# Altium schematic symbol library IN-5200_MAIN_Library.SchLib: 63 symbols
Pins are listed as number, name and electrical type; pins without a type are passive.

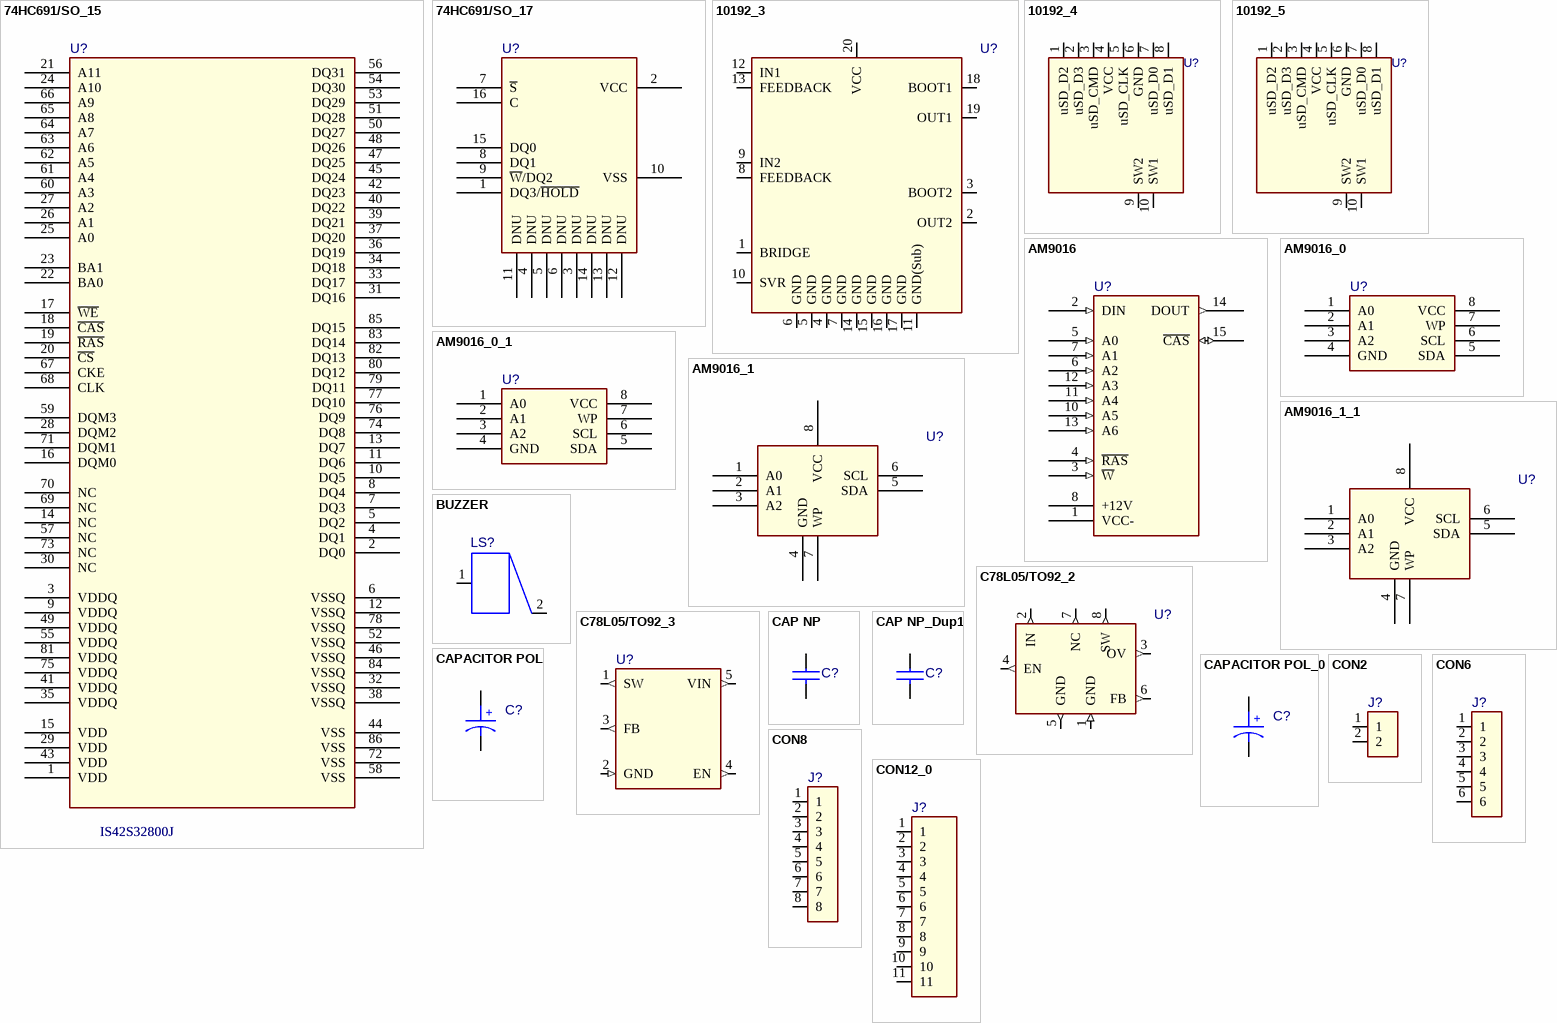
[diagram p0: symbols 74HC691/SO_15 to CON12_0]

## 74HC691/SO_15
designator U?, comment IS42S32800J
Value: IS42S32800J
pins: 1 VDD, 2 DQ0, 3 VDDQ, 4 DQ1, 5 DQ2, 6 VSSQ, 7 DQ3, 8 DQ4, 9 VDDQ, 10 DQ5, 11 DQ6, 12 VSSQ, 13 DQ7, 14 NC, 15 VDD, 16 DQM0, 17 ~{WE}, 18 ~{CAS}, 19 ~{RAS}, 20 ~{CS}, 21 A11, 22 BA0, 23 BA1, 24 A10, 25 A0, 26 A1, 27 A2, 28 DQM2, 29 VDD, 30 NC, 31 DQ16, 32 VSSQ, 33 DQ17, 34 DQ18, 35 VDDQ, 36 DQ19, 37 DQ20, 38 VSSQ, 39 DQ21, 40 DQ22, 41 VDDQ, 42 DQ23, 43 VDD, 44 VSS, 45 DQ24, 46 VSSQ, 47 DQ25, 48 DQ26, 49 VDDQ, 50 DQ27, 51 DQ28, 52 VSSQ, 53 DQ29, 54 DQ30, 55 VDDQ, 56 DQ31, 57 NC, 58 VSS, 59 DQM3, 60 A3, 61 A4, 62 A5, 63 A6, 64 A7, 65 A8, 66 A9, 67 CKE, 68 CLK, 69 NC, 70 NC, 71 DQM1, 72 VSS, 73 NC, 74 DQ8, 75 VDDQ, 76 DQ9, 77 DQ10, 78 VSSQ, 79 DQ11, 80 DQ12, 81 VDDQ, 82 DQ13, 83 DQ14, 84 VSSQ, 85 DQ15, 86 VSS

## 74HC691/SO_17
designator U?
pins: 1 DQ3/~{HOLD}, 2 VCC, 3 DNU, 4 DNU, 5 DNU, 6 DNU, 7 ~{S}, 8 DQ1, 9 ~{W}/DQ2, 10 VSS, 11 DNU, 12 DNU, 13 DNU, 14 DNU, 15 DQ0, 16 C

## 10192_3
designator U?
pins: 1 BRIDGE, 2 OUT2, 3 BOOT2, 4 GND, 5 GND, 6 GND, 7 GND, 8 FEEDBACK, 9 IN2, 10 SVR, 11 GND(Sub), 12 IN1, 13 FEEDBACK, 14 GND, 15 GND, 16 GND, 17 GND, 18 BOOT1, 19 OUT1, 20 VCC

## 10192_4
designator U?
pins: 1 uSD_D2, 2 uSD_D3, 3 uSD_CMD, 4 VCC, 5 uSD_CLK, 6 GND, 7 uSD_D0, 8 uSD_D1, 9 SW2, 10 SW1

## 10192_5
designator U?
pins: 1 uSD_D2, 2 uSD_D3, 3 uSD_CMD, 4 VCC, 5 uSD_CLK, 6 GND, 7 uSD_D0, 8 uSD_D1, 9 SW2, 10 SW1

## AM9016
designator U?
pins: 1 VCC- (power), 2 DIN (in), 3 ~{W} (in), 4 ~{RAS} (in), 5 A0 (in), 6 A2 (in), 7 A1 (in), 8 +12V (power), 9 VCC (power) hidden to VCC, 10 A5 (in), 11 A4 (in), 12 A3 (in), 13 A6 (in), 14 DOUT (out), 15 ~{CAS} (io), 16 GND (power) hidden to GND

## AM9016_0
designator U?
pins: 1 A0, 2 A1, 3 A2, 4 GND, 5 SDA, 6 SCL, 7 WP, 8 VCC

## AM9016_0_1
designator U?
pins: 1 A0, 2 A1, 3 A2, 4 GND, 5 SDA, 6 SCL, 7 WP, 8 VCC

## AM9016_1
designator U?
pins: 1 A0, 2 A1, 3 A2, 4 GND, 5 SDA, 6 SCL, 7 WP, 8 VCC

## AM9016_1_1
designator U?
pins: 1 A0, 2 A1, 3 A2, 4 GND, 5 SDA, 6 SCL, 7 WP, 8 VCC

## BUZZER
designator LS?
pins: 1 A, 2 B

## C78L05/TO92_2
designator U?
pins: 1 GND (in), 2 IN (out), 3 OV (out), 4 EN (out), 5 GND (out), 6 FB (out), 7 NC (out), 8 SW (out)

## C78L05/TO92_3
designator U?
pins: 1 SW (out), 2 GND (in), 3 FB (out), 4 EN (out), 5 VIN (out)

## CAP NP
designator C?
pins: 1, 2

## CAP NP_Dup1
designator C?
pins: 1, 2

## CAPACITOR POL
designator C?
pins: 1, 2
text: +

## CAPACITOR POL_0
designator C?
pins: 1, 2
text: +

## CON2
designator J?
pins: 1, 2

## CON6
designator J?
pins: 1, 2, 3, 4, 5, 6

## CON8
designator J?
pins: 1, 2, 3, 4, 5, 6, 7, 8

## CON12_0
designator J?
pins: 1, 2, 3, 4, 5, 6, 7, 8, 9, 10, 11

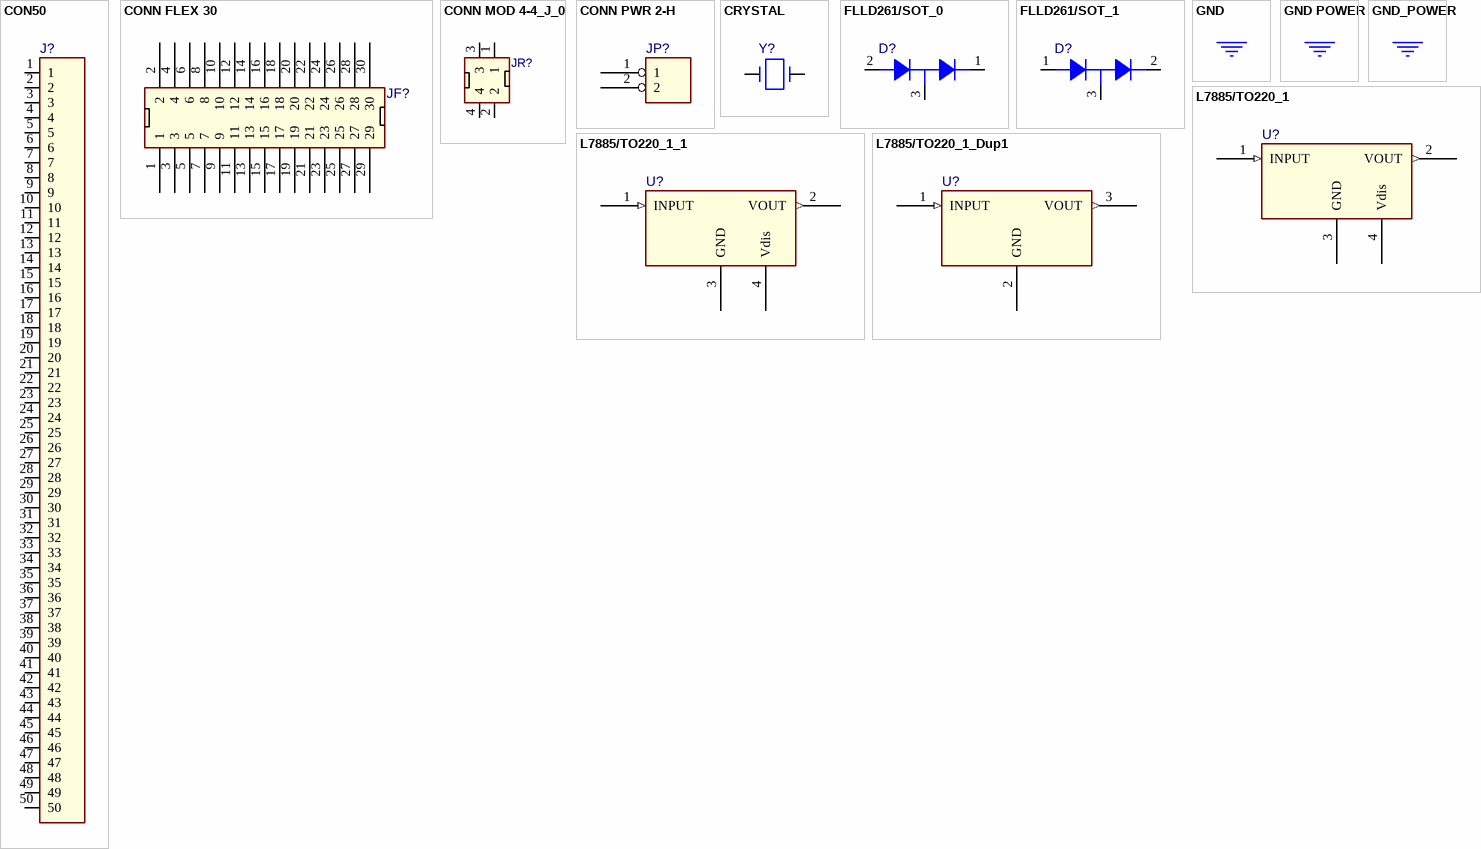
[diagram p1: symbols CON50 to L7885/TO220_1_Dup1]

## CON50
designator J?
pins: 1, 2, 3, 4, 5, 6, 7, 8, 9, 10, 11, 12, 13, 14, 15, 16, 17, 18, 19, 20, 21, 22, 23, 24, 25, 26, 27, 28, 29, 30, 31, 32, 33, 34, 35, 36, 37, 38, 39, 40, 41, 42, 43, 44, 45, 46, 47, 48, 49, 50

## CONN FLEX 30
designator JF?
pins: 1, 2, 3, 4, 5, 6, 7, 8, 9, 10, 11, 12, 13, 14, 15, 16, 17, 18, 19, 20, 21, 22, 23, 24, 25, 26, 27, 28, 29, 30

## CONN MOD 4-4_J_0
designator JR?
pins: 1, 2, 3, 4

## CONN PWR 2-H
designator JP?
pins: 1, 2

## CRYSTAL
designator Y?
pins: 1, 2

## FLLD261/SOT_0
designator D?
pins: 1 CATHODE, 2 ANODE, 3 COM

## FLLD261/SOT_1
designator D?
pins: 1 CATHODE, 2 ANODE, 3 COM

## GND
designator *  (value not drawn)  (graphical)
SDTSourceLibName: C:\rd\ui\DEVICE.LIB
pins: $PIN0 (power) hidden to $PIN0

## GND POWER
designator *  (value not drawn)  (graphical)
SDTSourceLibName: C:\rd\ui\DEVICE.LIB
pins: GND (power) hidden to GND

## GND_POWER
designator *  (value not drawn)  (graphical)
SDTSourceLibName: C:\rd\ui\DEVICE.LIB
pins: GND (power) hidden to GND

## L7885/TO220_1
designator U?
pins: 1 INPUT (in), 2 VOUT (out), 3 GND, 4 Vdis

## L7885/TO220_1_1
designator U?
pins: 1 INPUT (in), 2 VOUT (out), 3 GND, 4 Vdis

## L7885/TO220_1_Dup1
designator U?
pins: 1 INPUT (in), 2 GND, 3 VOUT (out)

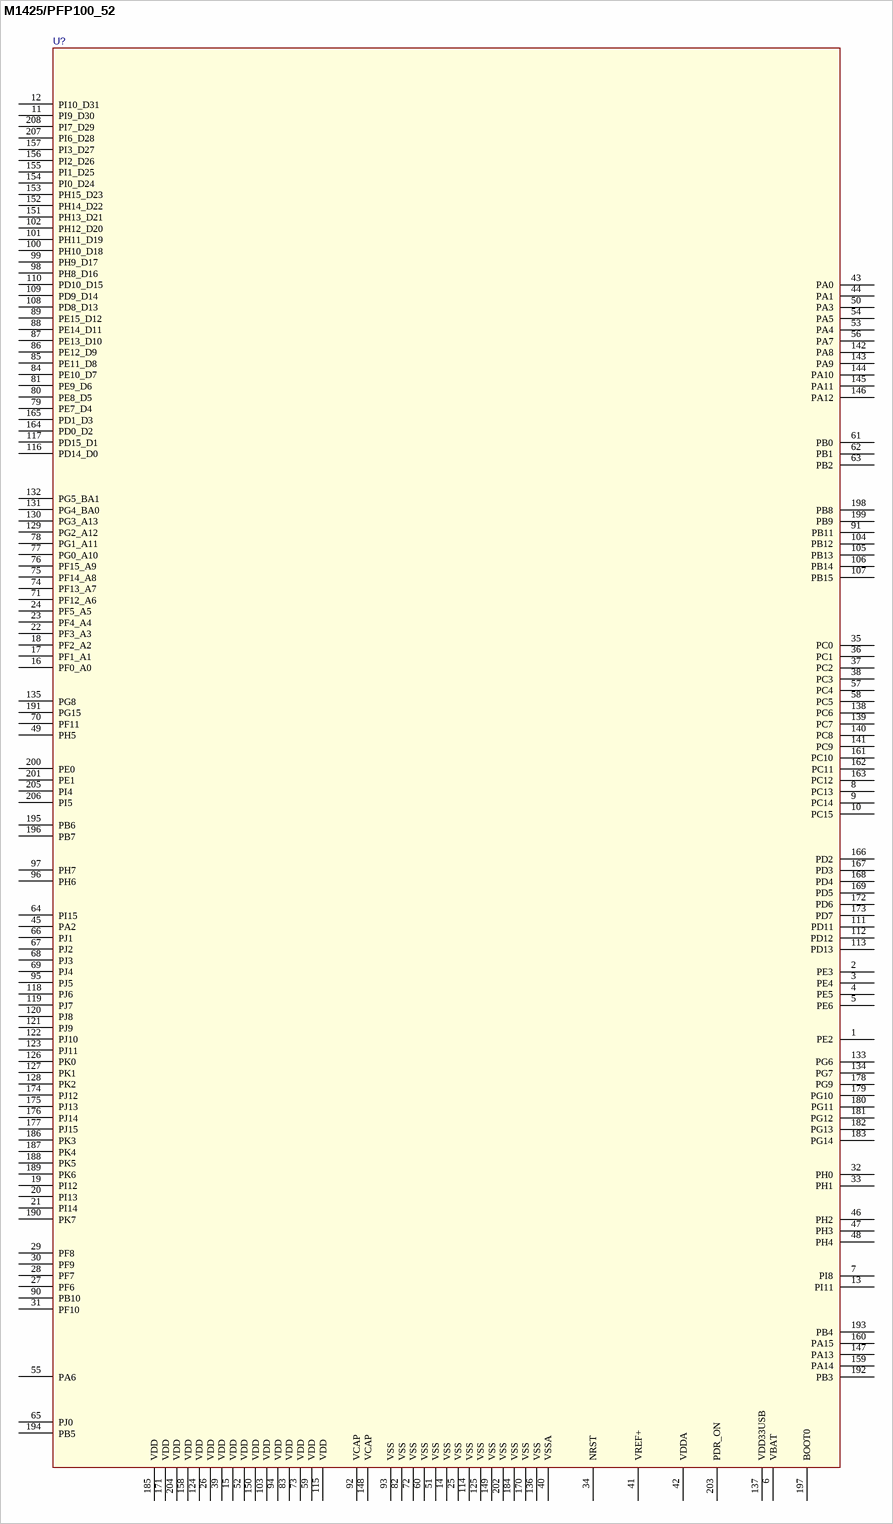
[diagram p2: symbol M1425/PFP100_52]

## M1425/PFP100_52
designator U?
pins: 1 PE2, 2 PE3, 3 PE4, 4 PE5, 5 PE6, 6 VBAT, 7 PI8, 8 PC13, 9 PC14, 10 PC15, 11 PI9_D30, 12 PI10_D31, 13 PI11, 14 VSS, 15 VDD, 16 PF0_A0, 17 PF1_A1, 18 PF2_A2, 19 PI12, 20 PI13, 21 PI14, 22 PF3_A3, 23 PF4_A4, 24 PF5_A5, 25 VSS, 26 VDD, 27 PF6, 28 PF7, 29 PF8, 30 PF9, 31 PF10, 32 PH0, 33 PH1, 34 NRST, 35 PC0, 36 PC1, 37 PC2, 38 PC3, 39 VDD, 40 VSSA, 41 VREF+, 42 VDDA, 43 PA0, 44 PA1, 45 PA2, 46 PH2, 47 PH3, 48 PH4, 49 PH5, 50 PA3, 51 VSS, 52 VDD, 53 PA4, 54 PA5, 55 PA6, 56 PA7, 57 PC4, 58 PC5, 59 VDD, 60 VSS, 61 PB0, 62 PB1, 63 PB2, 64 PI15, 65 PJ0, 66 PJ1, 67 PJ2, 68 PJ3, 69 PJ4, 70 PF11, 71 PF12_A6, 72 VSS, 73 VDD, 74 PF13_A7, 75 PF14_A8, 76 PF15_A9, 77 PG0_A10, 78 PG1_A11, 79 PE7_D4, 80 PE8_D5, 81 PE9_D6, 82 VSS, 83 VDD, 84 PE10_D7, 85 PE11_D8, 86 PE12_D9, 87 PE13_D10, 88 PE14_D11, 89 PE15_D12, 90 PB10, 91 PB11, 92 VCAP, 93 VSS, 94 VDD, 95 PJ5, 96 PH6, 97 PH7, 98 PH8_D16, 99 PH9_D17, 100 PH10_D18, 101 PH11_D19, 102 PH12_D20, 103 VDD, 104 PB12, 105 PB13, 106 PB14, 107 PB15, 108 PD8_D13, 109 PD9_D14, 110 PD10_D15, 111 PD11, 112 PD12, 113 PD13, 114 VSS, 115 VDD, 116 PD14_D0, 117 PD15_D1, 118 PJ6, 119 PJ7, 120 PJ8, 121 PJ9, 122 PJ10, 123 PJ11, 124 VDD, 125 VSS, 126 PK0, 127 PK1, 128 PK2, 129 PG2_A12, 130 PG3_A13, 131 PG4_BA0, 132 PG5_BA1, 133 PG6, 134 PG7, 135 PG8, 136 VSS, 137 VDD33USB, 138 PC6, 139 PC7, 140 PC8, 141 PC9, 142 PA8, 143 PA9, 144 PA10, 145 PA11, 146 PA12, 147 PA13, 148 VCAP, 149 VSS, 150 VDD, 151 PH13_D21, 152 PH14_D22, 153 PH15_D23, 154 PI0_D24, 155 PI1_D25, 156 PI2_D26, 157 PI3_D27, 158 VDD, 159 PA14, 160 PA15, 161 PC10, 162 PC11, 163 PC12, 164 PD0_D2, 165 PD1_D3, 166 PD2, 167 PD3, 168 PD4, 169 PD5, 170 VSS, 171 VDD, 172 PD6, 173 PD7, 174 PJ12, 175 PJ13, 176 PJ14, 177 PJ15, 178 PG9, 179 PG10, 180 PG11, 181 PG12, 182 PG13, 183 PG14, 184 VSS, 185 VDD, 186 PK3, 187 PK4, 188 PK5, 189 PK6, 190 PK7, 191 PG15, 192 PB3, 193 PB4, 194 PB5, 195 PB6, 196 PB7, 197 BOOT0, 198 PB8, 199 PB9, 200 PE0, 201 PE1, 202 VSS, 203 PDR_ON, 204 VDD, 205 PI4, 206 PI5, 207 PI6_D28, 208 PI7_D29

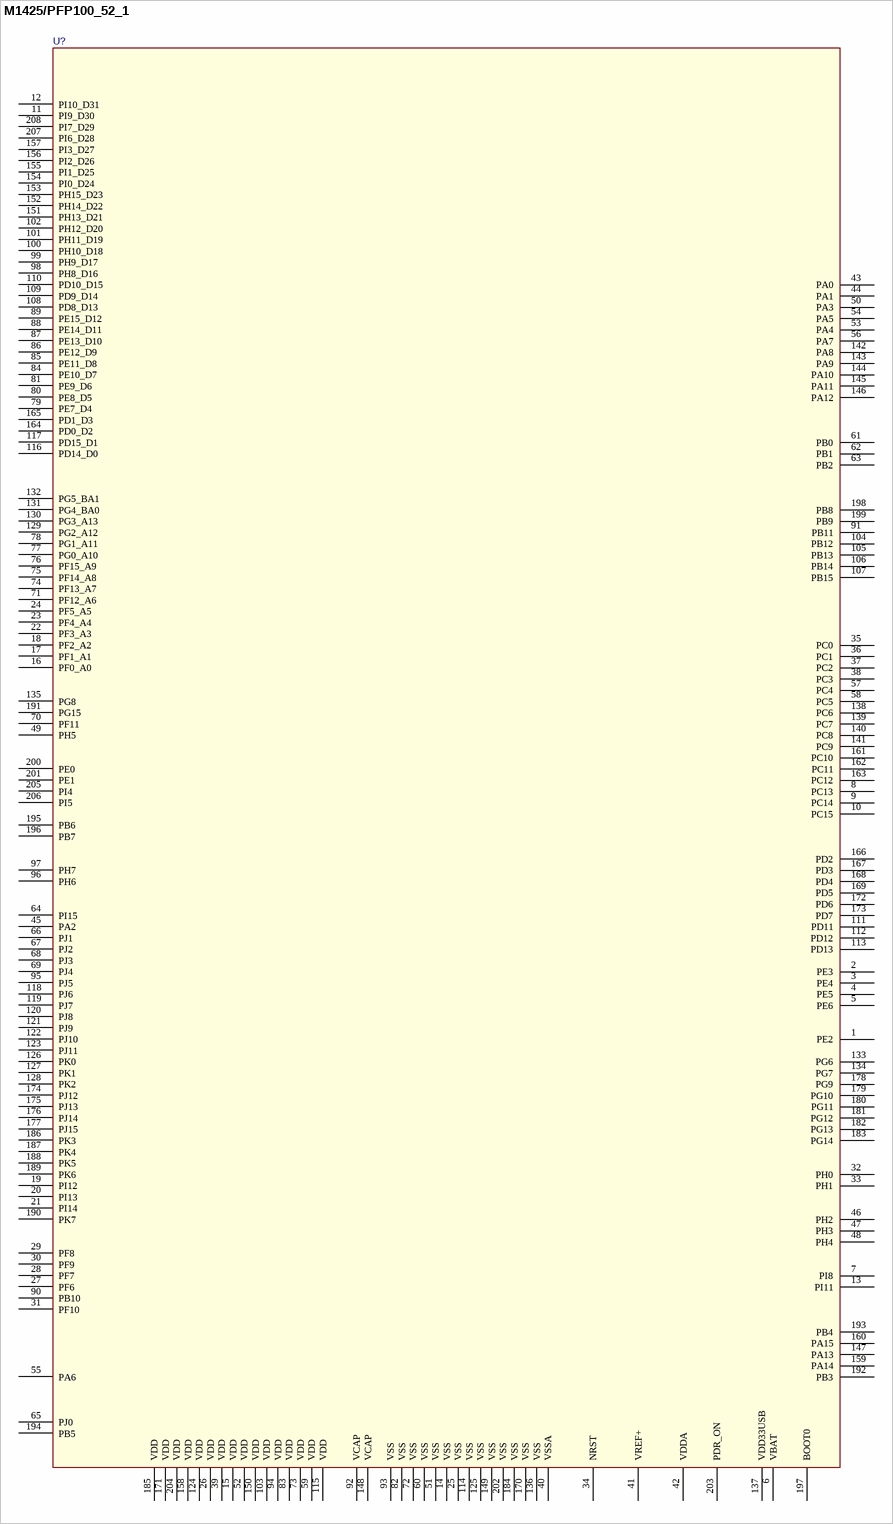
[diagram p3: symbol M1425/PFP100_52_1]

## M1425/PFP100_52_1
designator U?
pins: 1 PE2, 2 PE3, 3 PE4, 4 PE5, 5 PE6, 6 VBAT, 7 PI8, 8 PC13, 9 PC14, 10 PC15, 11 PI9_D30, 12 PI10_D31, 13 PI11, 14 VSS, 15 VDD, 16 PF0_A0, 17 PF1_A1, 18 PF2_A2, 19 PI12, 20 PI13, 21 PI14, 22 PF3_A3, 23 PF4_A4, 24 PF5_A5, 25 VSS, 26 VDD, 27 PF6, 28 PF7, 29 PF8, 30 PF9, 31 PF10, 32 PH0, 33 PH1, 34 NRST, 35 PC0, 36 PC1, 37 PC2, 38 PC3, 39 VDD, 40 VSSA, 41 VREF+, 42 VDDA, 43 PA0, 44 PA1, 45 PA2, 46 PH2, 47 PH3, 48 PH4, 49 PH5, 50 PA3, 51 VSS, 52 VDD, 53 PA4, 54 PA5, 55 PA6, 56 PA7, 57 PC4, 58 PC5, 59 VDD, 60 VSS, 61 PB0, 62 PB1, 63 PB2, 64 PI15, 65 PJ0, 66 PJ1, 67 PJ2, 68 PJ3, 69 PJ4, 70 PF11, 71 PF12_A6, 72 VSS, 73 VDD, 74 PF13_A7, 75 PF14_A8, 76 PF15_A9, 77 PG0_A10, 78 PG1_A11, 79 PE7_D4, 80 PE8_D5, 81 PE9_D6, 82 VSS, 83 VDD, 84 PE10_D7, 85 PE11_D8, 86 PE12_D9, 87 PE13_D10, 88 PE14_D11, 89 PE15_D12, 90 PB10, 91 PB11, 92 VCAP, 93 VSS, 94 VDD, 95 PJ5, 96 PH6, 97 PH7, 98 PH8_D16, 99 PH9_D17, 100 PH10_D18, 101 PH11_D19, 102 PH12_D20, 103 VDD, 104 PB12, 105 PB13, 106 PB14, 107 PB15, 108 PD8_D13, 109 PD9_D14, 110 PD10_D15, 111 PD11, 112 PD12, 113 PD13, 114 VSS, 115 VDD, 116 PD14_D0, 117 PD15_D1, 118 PJ6, 119 PJ7, 120 PJ8, 121 PJ9, 122 PJ10, 123 PJ11, 124 VDD, 125 VSS, 126 PK0, 127 PK1, 128 PK2, 129 PG2_A12, 130 PG3_A13, 131 PG4_BA0, 132 PG5_BA1, 133 PG6, 134 PG7, 135 PG8, 136 VSS, 137 VDD33USB, 138 PC6, 139 PC7, 140 PC8, 141 PC9, 142 PA8, 143 PA9, 144 PA10, 145 PA11, 146 PA12, 147 PA13, 148 VCAP, 149 VSS, 150 VDD, 151 PH13_D21, 152 PH14_D22, 153 PH15_D23, 154 PI0_D24, 155 PI1_D25, 156 PI2_D26, 157 PI3_D27, 158 VDD, 159 PA14, 160 PA15, 161 PC10, 162 PC11, 163 PC12, 164 PD0_D2, 165 PD1_D3, 166 PD2, 167 PD3, 168 PD4, 169 PD5, 170 VSS, 171 VDD, 172 PD6, 173 PD7, 174 PJ12, 175 PJ13, 176 PJ14, 177 PJ15, 178 PG9, 179 PG10, 180 PG11, 181 PG12, 182 PG13, 183 PG14, 184 VSS, 185 VDD, 186 PK3, 187 PK4, 188 PK5, 189 PK6, 190 PK7, 191 PG15, 192 PB3, 193 PB4, 194 PB5, 195 PB6, 196 PB7, 197 BOOT0, 198 PB8, 199 PB9, 200 PE0, 201 PE1, 202 VSS, 203 PDR_ON, 204 VDD, 205 PI4, 206 PI5, 207 PI6_D28, 208 PI7_D29

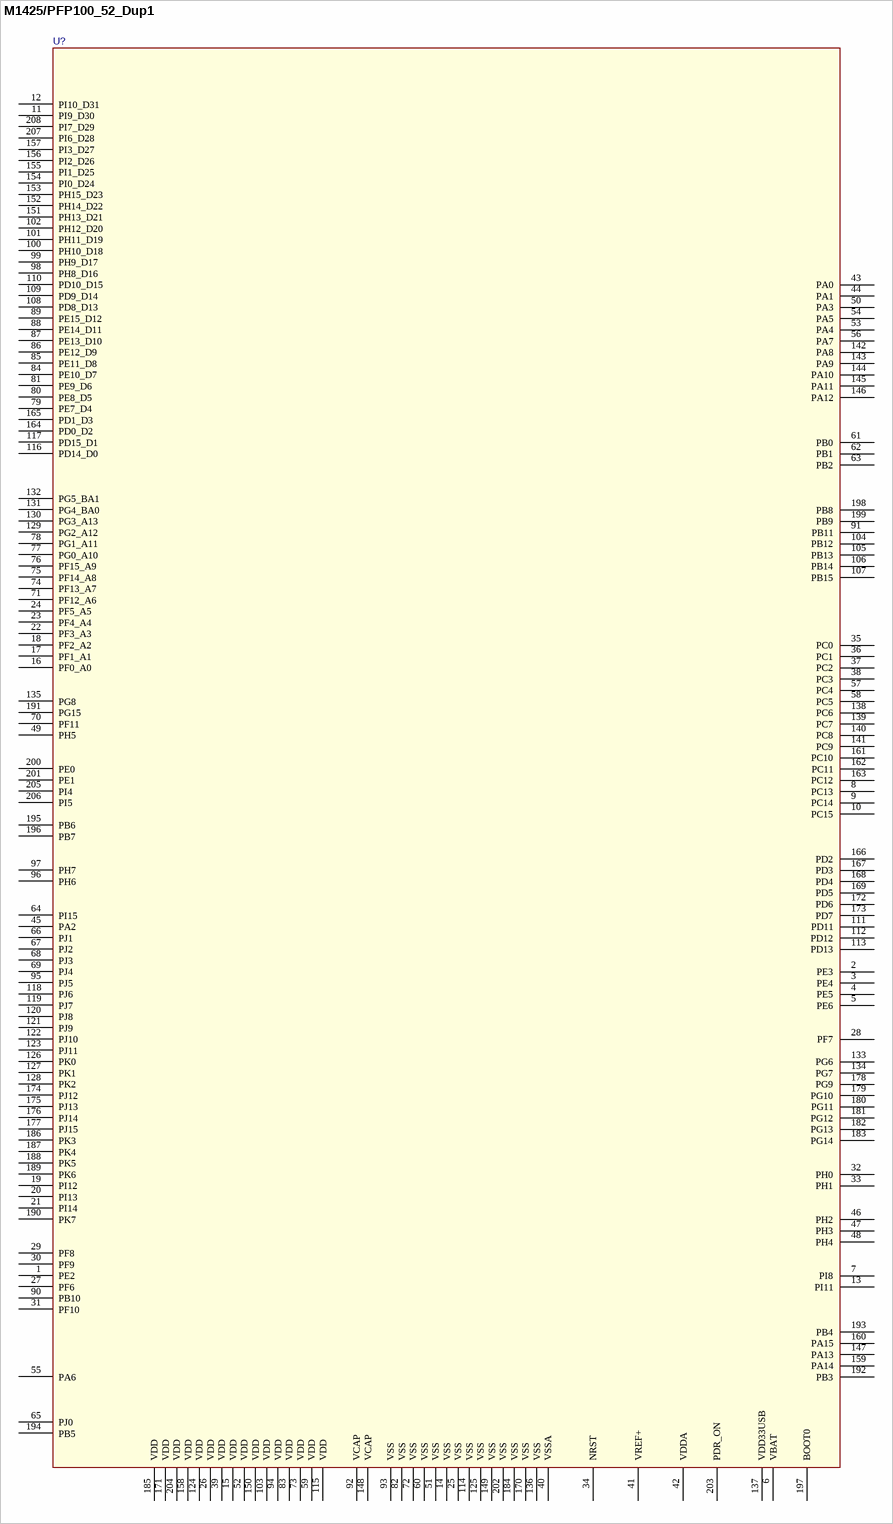
[diagram p4: symbol M1425/PFP100_52_Dup1]

## M1425/PFP100_52_Dup1
designator U?
pins: 1 PE2, 2 PE3, 3 PE4, 4 PE5, 5 PE6, 6 VBAT, 7 PI8, 8 PC13, 9 PC14, 10 PC15, 11 PI9_D30, 12 PI10_D31, 13 PI11, 14 VSS, 15 VDD, 16 PF0_A0, 17 PF1_A1, 18 PF2_A2, 19 PI12, 20 PI13, 21 PI14, 22 PF3_A3, 23 PF4_A4, 24 PF5_A5, 25 VSS, 26 VDD, 27 PF6, 28 PF7, 29 PF8, 30 PF9, 31 PF10, 32 PH0, 33 PH1, 34 NRST, 35 PC0, 36 PC1, 37 PC2, 38 PC3, 39 VDD, 40 VSSA, 41 VREF+, 42 VDDA, 43 PA0, 44 PA1, 45 PA2, 46 PH2, 47 PH3, 48 PH4, 49 PH5, 50 PA3, 51 VSS, 52 VDD, 53 PA4, 54 PA5, 55 PA6, 56 PA7, 57 PC4, 58 PC5, 59 VDD, 60 VSS, 61 PB0, 62 PB1, 63 PB2, 64 PI15, 65 PJ0, 66 PJ1, 67 PJ2, 68 PJ3, 69 PJ4, 70 PF11, 71 PF12_A6, 72 VSS, 73 VDD, 74 PF13_A7, 75 PF14_A8, 76 PF15_A9, 77 PG0_A10, 78 PG1_A11, 79 PE7_D4, 80 PE8_D5, 81 PE9_D6, 82 VSS, 83 VDD, 84 PE10_D7, 85 PE11_D8, 86 PE12_D9, 87 PE13_D10, 88 PE14_D11, 89 PE15_D12, 90 PB10, 91 PB11, 92 VCAP, 93 VSS, 94 VDD, 95 PJ5, 96 PH6, 97 PH7, 98 PH8_D16, 99 PH9_D17, 100 PH10_D18, 101 PH11_D19, 102 PH12_D20, 103 VDD, 104 PB12, 105 PB13, 106 PB14, 107 PB15, 108 PD8_D13, 109 PD9_D14, 110 PD10_D15, 111 PD11, 112 PD12, 113 PD13, 114 VSS, 115 VDD, 116 PD14_D0, 117 PD15_D1, 118 PJ6, 119 PJ7, 120 PJ8, 121 PJ9, 122 PJ10, 123 PJ11, 124 VDD, 125 VSS, 126 PK0, 127 PK1, 128 PK2, 129 PG2_A12, 130 PG3_A13, 131 PG4_BA0, 132 PG5_BA1, 133 PG6, 134 PG7, 135 PG8, 136 VSS, 137 VDD33USB, 138 PC6, 139 PC7, 140 PC8, 141 PC9, 142 PA8, 143 PA9, 144 PA10, 145 PA11, 146 PA12, 147 PA13, 148 VCAP, 149 VSS, 150 VDD, 151 PH13_D21, 152 PH14_D22, 153 PH15_D23, 154 PI0_D24, 155 PI1_D25, 156 PI2_D26, 157 PI3_D27, 158 VDD, 159 PA14, 160 PA15, 161 PC10, 162 PC11, 163 PC12, 164 PD0_D2, 165 PD1_D3, 166 PD2, 167 PD3, 168 PD4, 169 PD5, 170 VSS, 171 VDD, 172 PD6, 173 PD7, 174 PJ12, 175 PJ13, 176 PJ14, 177 PJ15, 178 PG9, 179 PG10, 180 PG11, 181 PG12, 182 PG13, 183 PG14, 184 VSS, 185 VDD, 186 PK3, 187 PK4, 188 PK5, 189 PK6, 190 PK7, 191 PG15, 192 PB3, 193 PB4, 194 PB5, 195 PB6, 196 PB7, 197 BOOT0, 198 PB8, 199 PB9, 200 PE0, 201 PE1, 202 VSS, 203 PDR_ON, 204 VDD, 205 PI4, 206 PI5, 207 PI6_D28, 208 PI7_D29

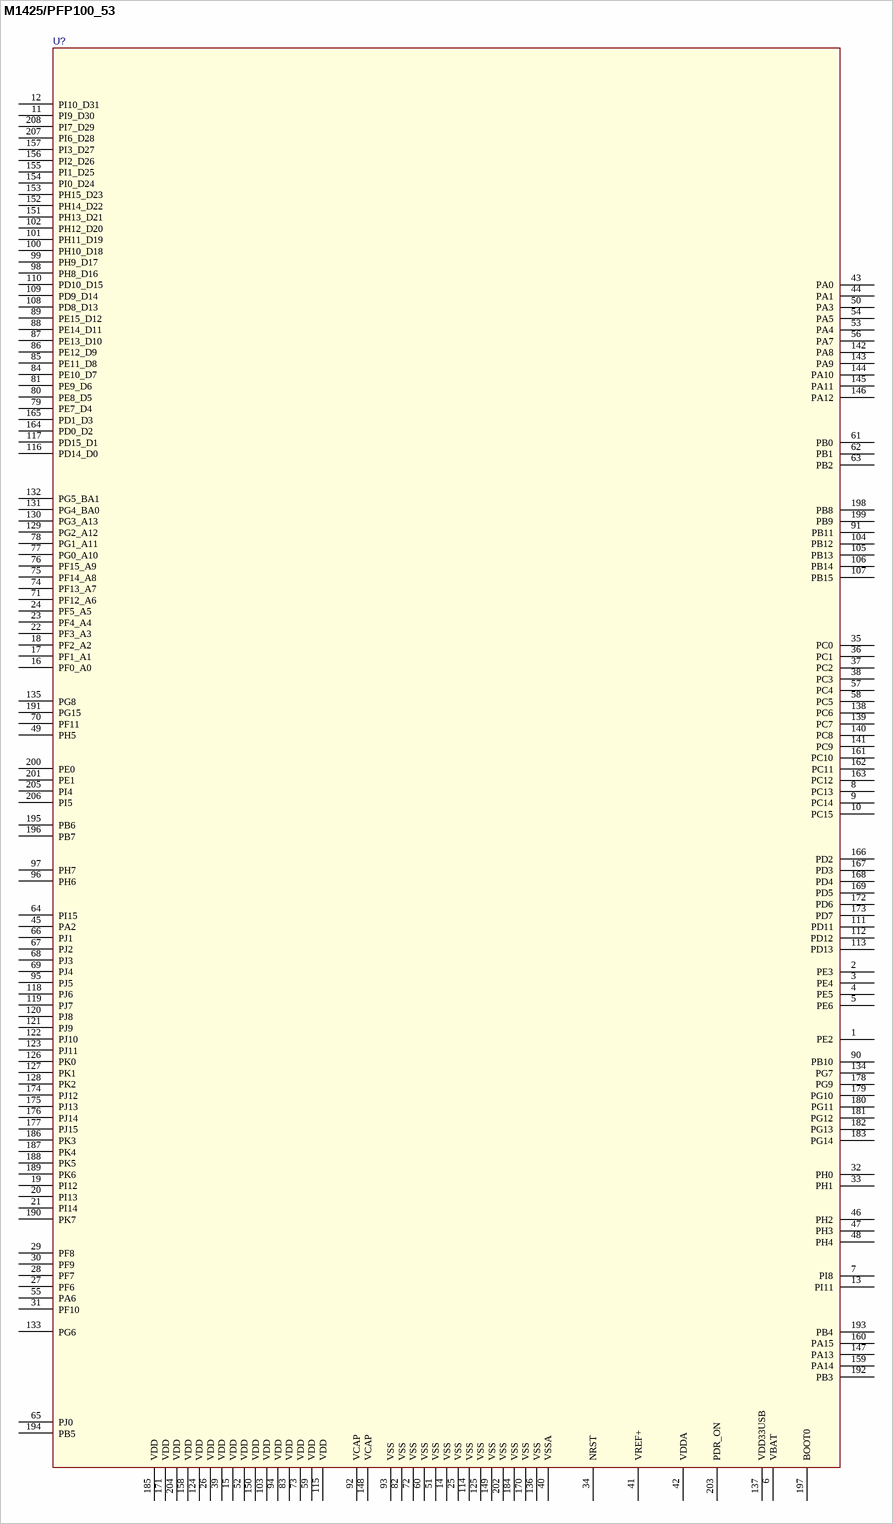
[diagram p5: symbol M1425/PFP100_53]

## M1425/PFP100_53
designator U?
pins: 1 PE2, 2 PE3, 3 PE4, 4 PE5, 5 PE6, 6 VBAT, 7 PI8, 8 PC13, 9 PC14, 10 PC15, 11 PI9_D30, 12 PI10_D31, 13 PI11, 14 VSS, 15 VDD, 16 PF0_A0, 17 PF1_A1, 18 PF2_A2, 19 PI12, 20 PI13, 21 PI14, 22 PF3_A3, 23 PF4_A4, 24 PF5_A5, 25 VSS, 26 VDD, 27 PF6, 28 PF7, 29 PF8, 30 PF9, 31 PF10, 32 PH0, 33 PH1, 34 NRST, 35 PC0, 36 PC1, 37 PC2, 38 PC3, 39 VDD, 40 VSSA, 41 VREF+, 42 VDDA, 43 PA0, 44 PA1, 45 PA2, 46 PH2, 47 PH3, 48 PH4, 49 PH5, 50 PA3, 51 VSS, 52 VDD, 53 PA4, 54 PA5, 55 PA6, 56 PA7, 57 PC4, 58 PC5, 59 VDD, 60 VSS, 61 PB0, 62 PB1, 63 PB2, 64 PI15, 65 PJ0, 66 PJ1, 67 PJ2, 68 PJ3, 69 PJ4, 70 PF11, 71 PF12_A6, 72 VSS, 73 VDD, 74 PF13_A7, 75 PF14_A8, 76 PF15_A9, 77 PG0_A10, 78 PG1_A11, 79 PE7_D4, 80 PE8_D5, 81 PE9_D6, 82 VSS, 83 VDD, 84 PE10_D7, 85 PE11_D8, 86 PE12_D9, 87 PE13_D10, 88 PE14_D11, 89 PE15_D12, 90 PB10, 91 PB11, 92 VCAP, 93 VSS, 94 VDD, 95 PJ5, 96 PH6, 97 PH7, 98 PH8_D16, 99 PH9_D17, 100 PH10_D18, 101 PH11_D19, 102 PH12_D20, 103 VDD, 104 PB12, 105 PB13, 106 PB14, 107 PB15, 108 PD8_D13, 109 PD9_D14, 110 PD10_D15, 111 PD11, 112 PD12, 113 PD13, 114 VSS, 115 VDD, 116 PD14_D0, 117 PD15_D1, 118 PJ6, 119 PJ7, 120 PJ8, 121 PJ9, 122 PJ10, 123 PJ11, 124 VDD, 125 VSS, 126 PK0, 127 PK1, 128 PK2, 129 PG2_A12, 130 PG3_A13, 131 PG4_BA0, 132 PG5_BA1, 133 PG6, 134 PG7, 135 PG8, 136 VSS, 137 VDD33USB, 138 PC6, 139 PC7, 140 PC8, 141 PC9, 142 PA8, 143 PA9, 144 PA10, 145 PA11, 146 PA12, 147 PA13, 148 VCAP, 149 VSS, 150 VDD, 151 PH13_D21, 152 PH14_D22, 153 PH15_D23, 154 PI0_D24, 155 PI1_D25, 156 PI2_D26, 157 PI3_D27, 158 VDD, 159 PA14, 160 PA15, 161 PC10, 162 PC11, 163 PC12, 164 PD0_D2, 165 PD1_D3, 166 PD2, 167 PD3, 168 PD4, 169 PD5, 170 VSS, 171 VDD, 172 PD6, 173 PD7, 174 PJ12, 175 PJ13, 176 PJ14, 177 PJ15, 178 PG9, 179 PG10, 180 PG11, 181 PG12, 182 PG13, 183 PG14, 184 VSS, 185 VDD, 186 PK3, 187 PK4, 188 PK5, 189 PK6, 190 PK7, 191 PG15, 192 PB3, 193 PB4, 194 PB5, 195 PB6, 196 PB7, 197 BOOT0, 198 PB8, 199 PB9, 200 PE0, 201 PE1, 202 VSS, 203 PDR_ON, 204 VDD, 205 PI4, 206 PI5, 207 PI6_D28, 208 PI7_D29

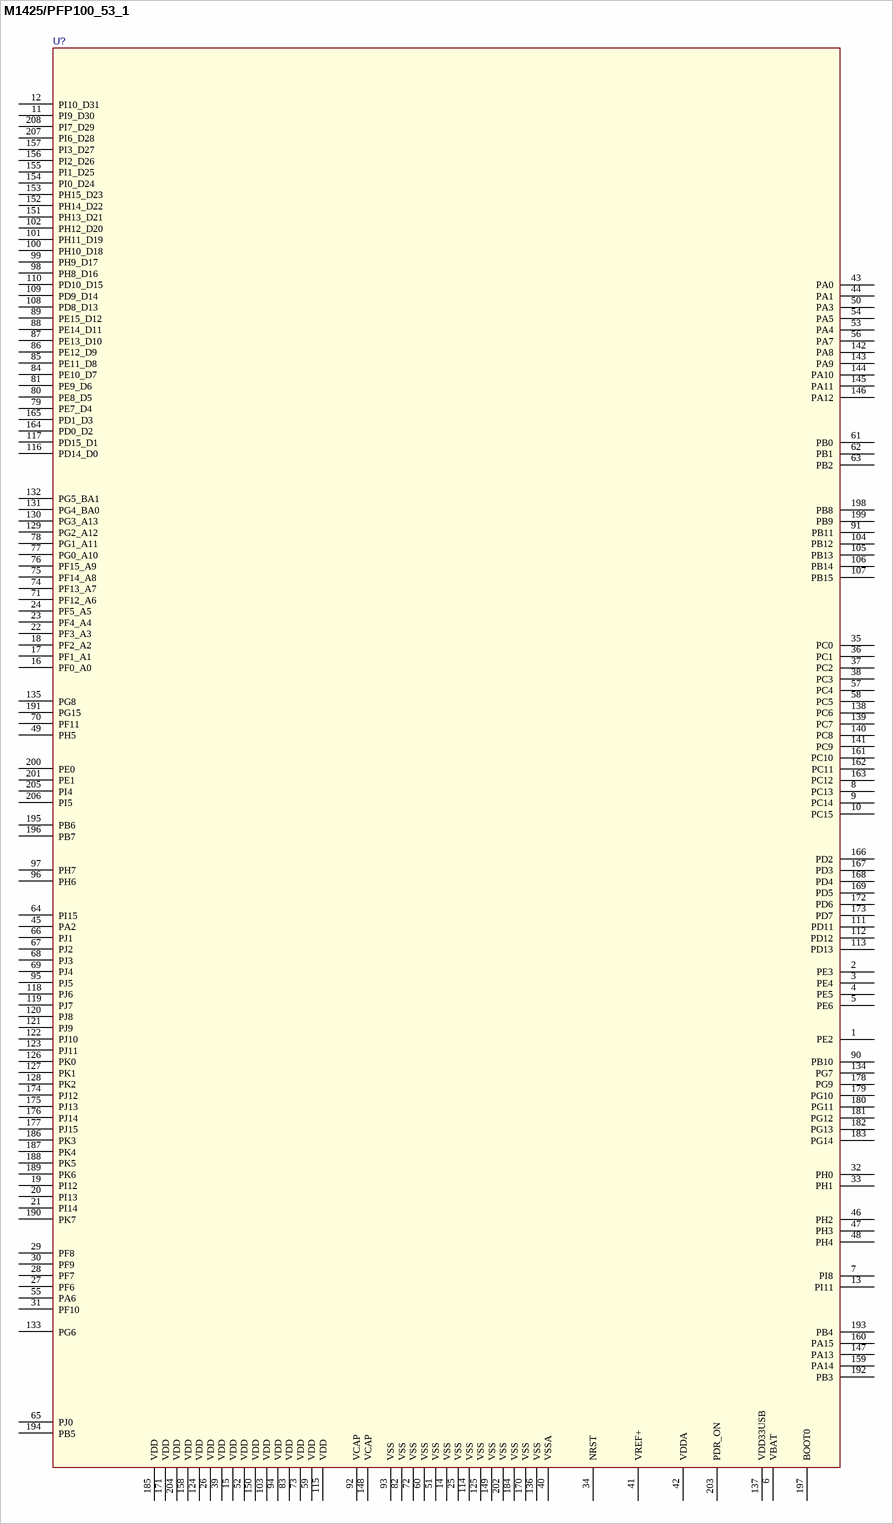
[diagram p6: symbol M1425/PFP100_53_1]

## M1425/PFP100_53_1
designator U?
pins: 1 PE2, 2 PE3, 3 PE4, 4 PE5, 5 PE6, 6 VBAT, 7 PI8, 8 PC13, 9 PC14, 10 PC15, 11 PI9_D30, 12 PI10_D31, 13 PI11, 14 VSS, 15 VDD, 16 PF0_A0, 17 PF1_A1, 18 PF2_A2, 19 PI12, 20 PI13, 21 PI14, 22 PF3_A3, 23 PF4_A4, 24 PF5_A5, 25 VSS, 26 VDD, 27 PF6, 28 PF7, 29 PF8, 30 PF9, 31 PF10, 32 PH0, 33 PH1, 34 NRST, 35 PC0, 36 PC1, 37 PC2, 38 PC3, 39 VDD, 40 VSSA, 41 VREF+, 42 VDDA, 43 PA0, 44 PA1, 45 PA2, 46 PH2, 47 PH3, 48 PH4, 49 PH5, 50 PA3, 51 VSS, 52 VDD, 53 PA4, 54 PA5, 55 PA6, 56 PA7, 57 PC4, 58 PC5, 59 VDD, 60 VSS, 61 PB0, 62 PB1, 63 PB2, 64 PI15, 65 PJ0, 66 PJ1, 67 PJ2, 68 PJ3, 69 PJ4, 70 PF11, 71 PF12_A6, 72 VSS, 73 VDD, 74 PF13_A7, 75 PF14_A8, 76 PF15_A9, 77 PG0_A10, 78 PG1_A11, 79 PE7_D4, 80 PE8_D5, 81 PE9_D6, 82 VSS, 83 VDD, 84 PE10_D7, 85 PE11_D8, 86 PE12_D9, 87 PE13_D10, 88 PE14_D11, 89 PE15_D12, 90 PB10, 91 PB11, 92 VCAP, 93 VSS, 94 VDD, 95 PJ5, 96 PH6, 97 PH7, 98 PH8_D16, 99 PH9_D17, 100 PH10_D18, 101 PH11_D19, 102 PH12_D20, 103 VDD, 104 PB12, 105 PB13, 106 PB14, 107 PB15, 108 PD8_D13, 109 PD9_D14, 110 PD10_D15, 111 PD11, 112 PD12, 113 PD13, 114 VSS, 115 VDD, 116 PD14_D0, 117 PD15_D1, 118 PJ6, 119 PJ7, 120 PJ8, 121 PJ9, 122 PJ10, 123 PJ11, 124 VDD, 125 VSS, 126 PK0, 127 PK1, 128 PK2, 129 PG2_A12, 130 PG3_A13, 131 PG4_BA0, 132 PG5_BA1, 133 PG6, 134 PG7, 135 PG8, 136 VSS, 137 VDD33USB, 138 PC6, 139 PC7, 140 PC8, 141 PC9, 142 PA8, 143 PA9, 144 PA10, 145 PA11, 146 PA12, 147 PA13, 148 VCAP, 149 VSS, 150 VDD, 151 PH13_D21, 152 PH14_D22, 153 PH15_D23, 154 PI0_D24, 155 PI1_D25, 156 PI2_D26, 157 PI3_D27, 158 VDD, 159 PA14, 160 PA15, 161 PC10, 162 PC11, 163 PC12, 164 PD0_D2, 165 PD1_D3, 166 PD2, 167 PD3, 168 PD4, 169 PD5, 170 VSS, 171 VDD, 172 PD6, 173 PD7, 174 PJ12, 175 PJ13, 176 PJ14, 177 PJ15, 178 PG9, 179 PG10, 180 PG11, 181 PG12, 182 PG13, 183 PG14, 184 VSS, 185 VDD, 186 PK3, 187 PK4, 188 PK5, 189 PK6, 190 PK7, 191 PG15, 192 PB3, 193 PB4, 194 PB5, 195 PB6, 196 PB7, 197 BOOT0, 198 PB8, 199 PB9, 200 PE0, 201 PE1, 202 VSS, 203 PDR_ON, 204 VDD, 205 PI4, 206 PI5, 207 PI6_D28, 208 PI7_D29

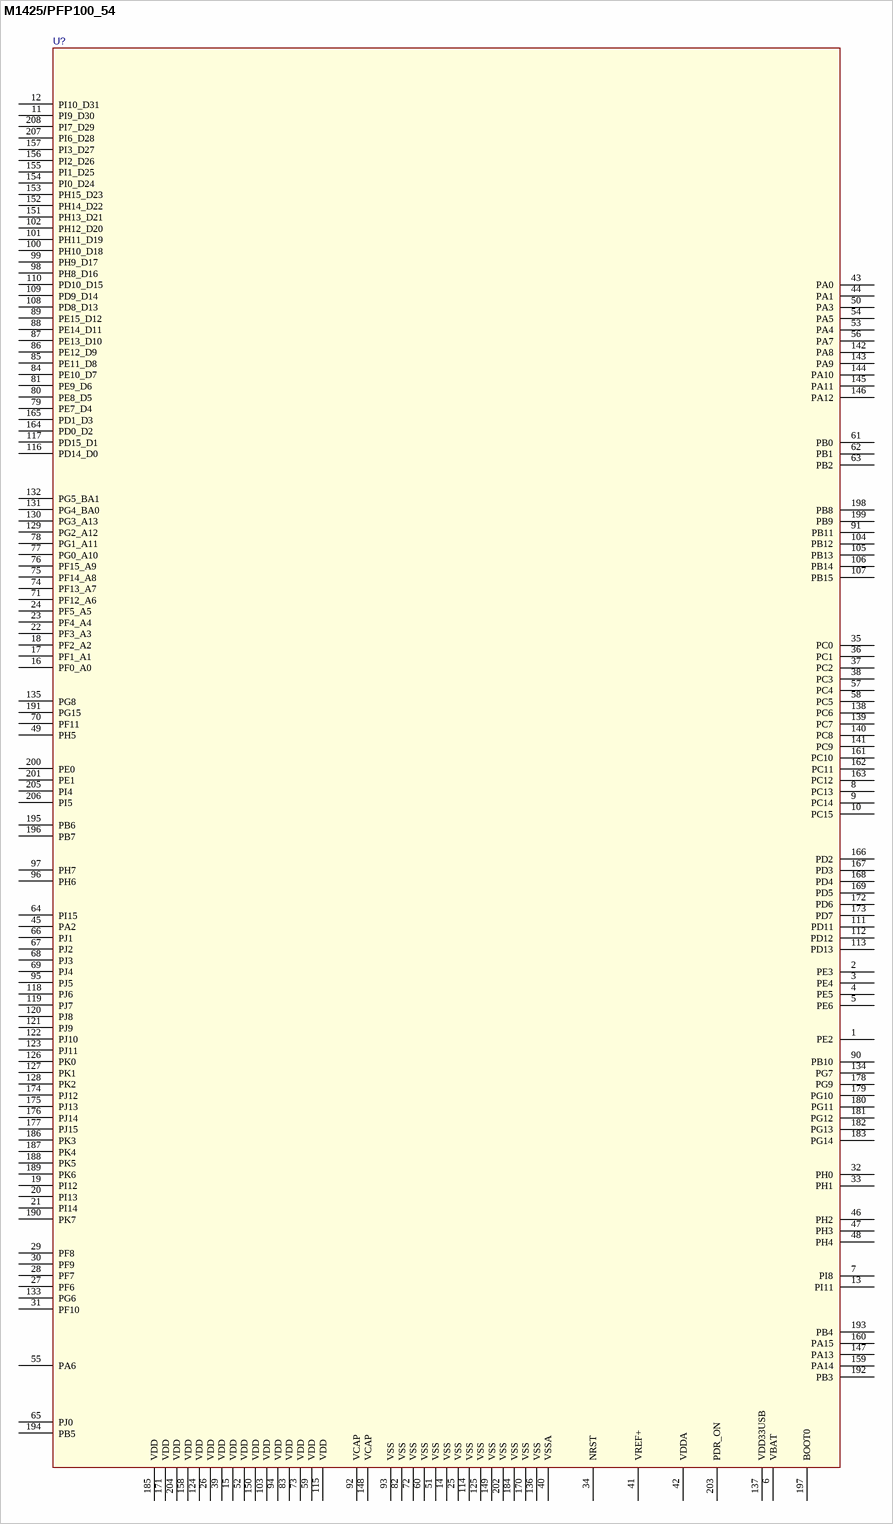
[diagram p7: symbol M1425/PFP100_54]

## M1425/PFP100_54
designator U?
pins: 1 PE2, 2 PE3, 3 PE4, 4 PE5, 5 PE6, 6 VBAT, 7 PI8, 8 PC13, 9 PC14, 10 PC15, 11 PI9_D30, 12 PI10_D31, 13 PI11, 14 VSS, 15 VDD, 16 PF0_A0, 17 PF1_A1, 18 PF2_A2, 19 PI12, 20 PI13, 21 PI14, 22 PF3_A3, 23 PF4_A4, 24 PF5_A5, 25 VSS, 26 VDD, 27 PF6, 28 PF7, 29 PF8, 30 PF9, 31 PF10, 32 PH0, 33 PH1, 34 NRST, 35 PC0, 36 PC1, 37 PC2, 38 PC3, 39 VDD, 40 VSSA, 41 VREF+, 42 VDDA, 43 PA0, 44 PA1, 45 PA2, 46 PH2, 47 PH3, 48 PH4, 49 PH5, 50 PA3, 51 VSS, 52 VDD, 53 PA4, 54 PA5, 55 PA6, 56 PA7, 57 PC4, 58 PC5, 59 VDD, 60 VSS, 61 PB0, 62 PB1, 63 PB2, 64 PI15, 65 PJ0, 66 PJ1, 67 PJ2, 68 PJ3, 69 PJ4, 70 PF11, 71 PF12_A6, 72 VSS, 73 VDD, 74 PF13_A7, 75 PF14_A8, 76 PF15_A9, 77 PG0_A10, 78 PG1_A11, 79 PE7_D4, 80 PE8_D5, 81 PE9_D6, 82 VSS, 83 VDD, 84 PE10_D7, 85 PE11_D8, 86 PE12_D9, 87 PE13_D10, 88 PE14_D11, 89 PE15_D12, 90 PB10, 91 PB11, 92 VCAP, 93 VSS, 94 VDD, 95 PJ5, 96 PH6, 97 PH7, 98 PH8_D16, 99 PH9_D17, 100 PH10_D18, 101 PH11_D19, 102 PH12_D20, 103 VDD, 104 PB12, 105 PB13, 106 PB14, 107 PB15, 108 PD8_D13, 109 PD9_D14, 110 PD10_D15, 111 PD11, 112 PD12, 113 PD13, 114 VSS, 115 VDD, 116 PD14_D0, 117 PD15_D1, 118 PJ6, 119 PJ7, 120 PJ8, 121 PJ9, 122 PJ10, 123 PJ11, 124 VDD, 125 VSS, 126 PK0, 127 PK1, 128 PK2, 129 PG2_A12, 130 PG3_A13, 131 PG4_BA0, 132 PG5_BA1, 133 PG6, 134 PG7, 135 PG8, 136 VSS, 137 VDD33USB, 138 PC6, 139 PC7, 140 PC8, 141 PC9, 142 PA8, 143 PA9, 144 PA10, 145 PA11, 146 PA12, 147 PA13, 148 VCAP, 149 VSS, 150 VDD, 151 PH13_D21, 152 PH14_D22, 153 PH15_D23, 154 PI0_D24, 155 PI1_D25, 156 PI2_D26, 157 PI3_D27, 158 VDD, 159 PA14, 160 PA15, 161 PC10, 162 PC11, 163 PC12, 164 PD0_D2, 165 PD1_D3, 166 PD2, 167 PD3, 168 PD4, 169 PD5, 170 VSS, 171 VDD, 172 PD6, 173 PD7, 174 PJ12, 175 PJ13, 176 PJ14, 177 PJ15, 178 PG9, 179 PG10, 180 PG11, 181 PG12, 182 PG13, 183 PG14, 184 VSS, 185 VDD, 186 PK3, 187 PK4, 188 PK5, 189 PK6, 190 PK7, 191 PG15, 192 PB3, 193 PB4, 194 PB5, 195 PB6, 196 PB7, 197 BOOT0, 198 PB8, 199 PB9, 200 PE0, 201 PE1, 202 VSS, 203 PDR_ON, 204 VDD, 205 PI4, 206 PI5, 207 PI6_D28, 208 PI7_D29

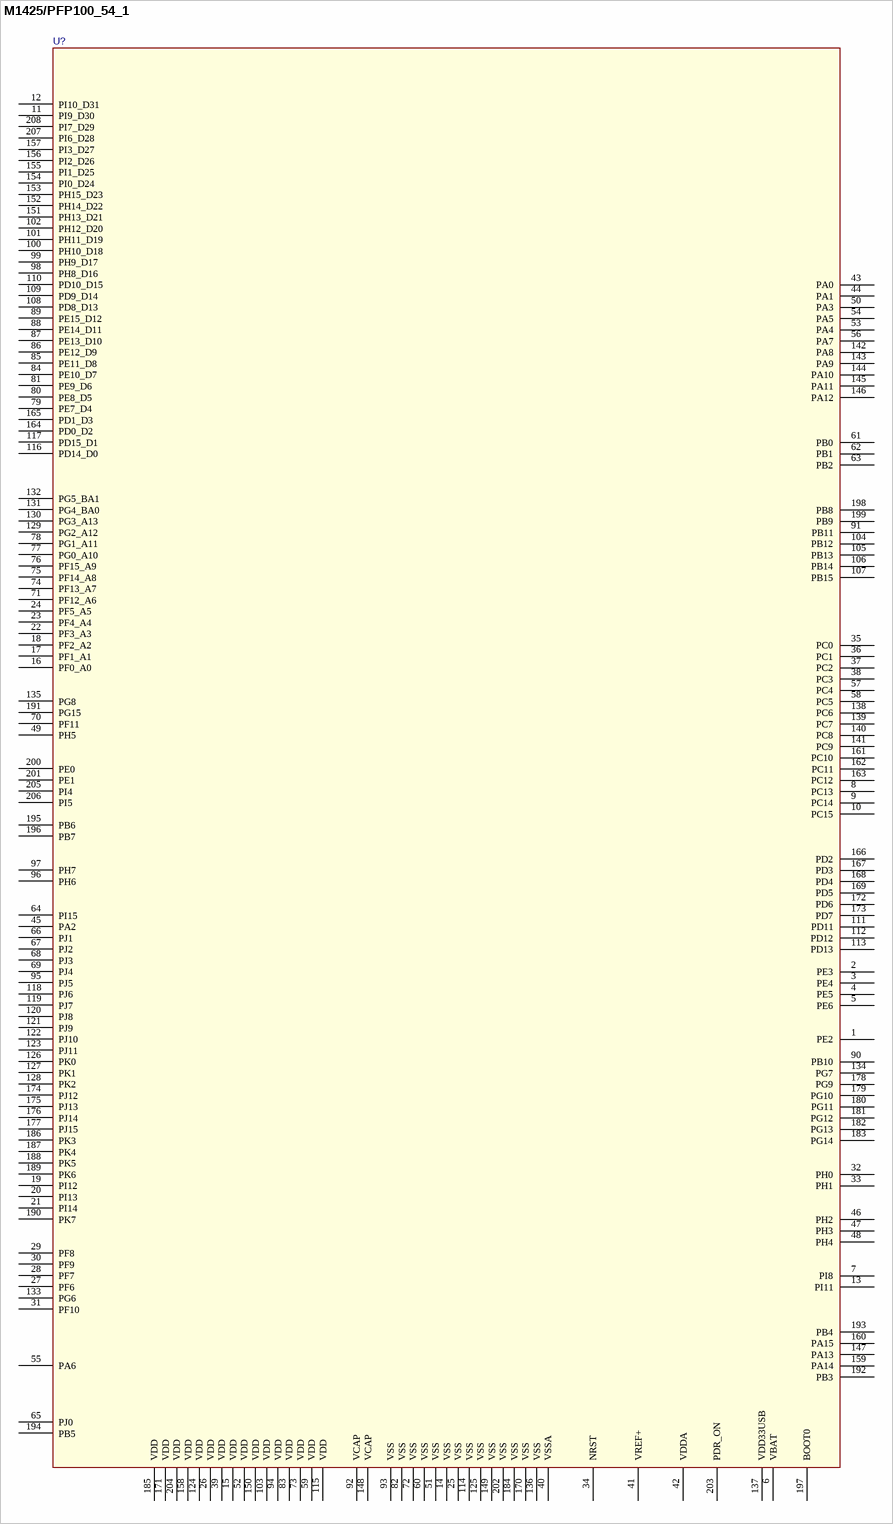
[diagram p8: symbol M1425/PFP100_54_1]

## M1425/PFP100_54_1
designator U?
pins: 1 PE2, 2 PE3, 3 PE4, 4 PE5, 5 PE6, 6 VBAT, 7 PI8, 8 PC13, 9 PC14, 10 PC15, 11 PI9_D30, 12 PI10_D31, 13 PI11, 14 VSS, 15 VDD, 16 PF0_A0, 17 PF1_A1, 18 PF2_A2, 19 PI12, 20 PI13, 21 PI14, 22 PF3_A3, 23 PF4_A4, 24 PF5_A5, 25 VSS, 26 VDD, 27 PF6, 28 PF7, 29 PF8, 30 PF9, 31 PF10, 32 PH0, 33 PH1, 34 NRST, 35 PC0, 36 PC1, 37 PC2, 38 PC3, 39 VDD, 40 VSSA, 41 VREF+, 42 VDDA, 43 PA0, 44 PA1, 45 PA2, 46 PH2, 47 PH3, 48 PH4, 49 PH5, 50 PA3, 51 VSS, 52 VDD, 53 PA4, 54 PA5, 55 PA6, 56 PA7, 57 PC4, 58 PC5, 59 VDD, 60 VSS, 61 PB0, 62 PB1, 63 PB2, 64 PI15, 65 PJ0, 66 PJ1, 67 PJ2, 68 PJ3, 69 PJ4, 70 PF11, 71 PF12_A6, 72 VSS, 73 VDD, 74 PF13_A7, 75 PF14_A8, 76 PF15_A9, 77 PG0_A10, 78 PG1_A11, 79 PE7_D4, 80 PE8_D5, 81 PE9_D6, 82 VSS, 83 VDD, 84 PE10_D7, 85 PE11_D8, 86 PE12_D9, 87 PE13_D10, 88 PE14_D11, 89 PE15_D12, 90 PB10, 91 PB11, 92 VCAP, 93 VSS, 94 VDD, 95 PJ5, 96 PH6, 97 PH7, 98 PH8_D16, 99 PH9_D17, 100 PH10_D18, 101 PH11_D19, 102 PH12_D20, 103 VDD, 104 PB12, 105 PB13, 106 PB14, 107 PB15, 108 PD8_D13, 109 PD9_D14, 110 PD10_D15, 111 PD11, 112 PD12, 113 PD13, 114 VSS, 115 VDD, 116 PD14_D0, 117 PD15_D1, 118 PJ6, 119 PJ7, 120 PJ8, 121 PJ9, 122 PJ10, 123 PJ11, 124 VDD, 125 VSS, 126 PK0, 127 PK1, 128 PK2, 129 PG2_A12, 130 PG3_A13, 131 PG4_BA0, 132 PG5_BA1, 133 PG6, 134 PG7, 135 PG8, 136 VSS, 137 VDD33USB, 138 PC6, 139 PC7, 140 PC8, 141 PC9, 142 PA8, 143 PA9, 144 PA10, 145 PA11, 146 PA12, 147 PA13, 148 VCAP, 149 VSS, 150 VDD, 151 PH13_D21, 152 PH14_D22, 153 PH15_D23, 154 PI0_D24, 155 PI1_D25, 156 PI2_D26, 157 PI3_D27, 158 VDD, 159 PA14, 160 PA15, 161 PC10, 162 PC11, 163 PC12, 164 PD0_D2, 165 PD1_D3, 166 PD2, 167 PD3, 168 PD4, 169 PD5, 170 VSS, 171 VDD, 172 PD6, 173 PD7, 174 PJ12, 175 PJ13, 176 PJ14, 177 PJ15, 178 PG9, 179 PG10, 180 PG11, 181 PG12, 182 PG13, 183 PG14, 184 VSS, 185 VDD, 186 PK3, 187 PK4, 188 PK5, 189 PK6, 190 PK7, 191 PG15, 192 PB3, 193 PB4, 194 PB5, 195 PB6, 196 PB7, 197 BOOT0, 198 PB8, 199 PB9, 200 PE0, 201 PE1, 202 VSS, 203 PDR_ON, 204 VDD, 205 PI4, 206 PI5, 207 PI6_D28, 208 PI7_D29

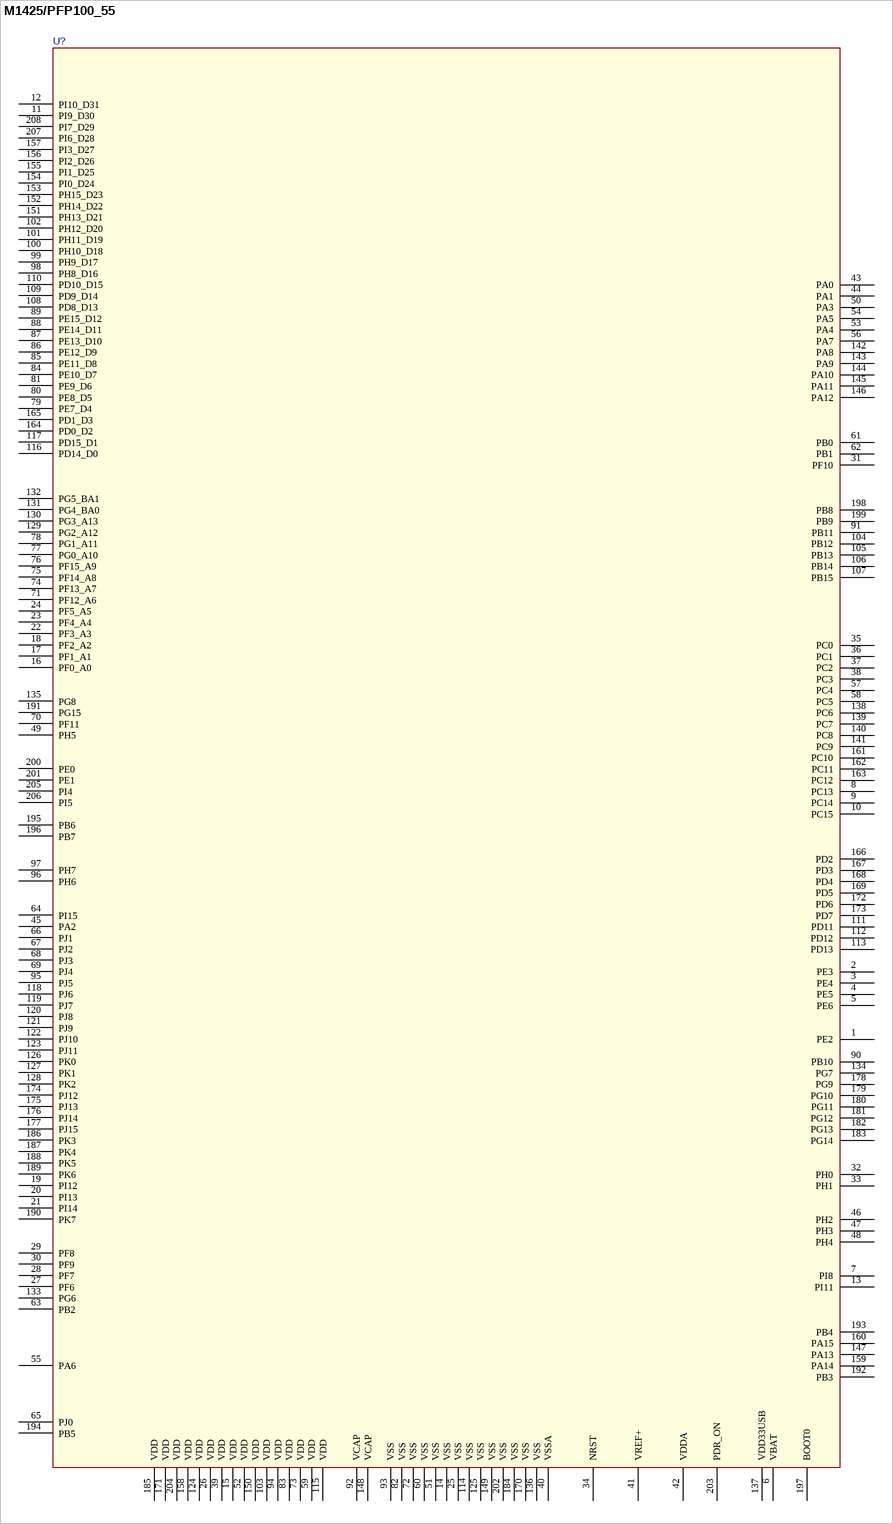
[diagram p9: symbol M1425/PFP100_55]

## M1425/PFP100_55
designator U?
pins: 1 PE2, 2 PE3, 3 PE4, 4 PE5, 5 PE6, 6 VBAT, 7 PI8, 8 PC13, 9 PC14, 10 PC15, 11 PI9_D30, 12 PI10_D31, 13 PI11, 14 VSS, 15 VDD, 16 PF0_A0, 17 PF1_A1, 18 PF2_A2, 19 PI12, 20 PI13, 21 PI14, 22 PF3_A3, 23 PF4_A4, 24 PF5_A5, 25 VSS, 26 VDD, 27 PF6, 28 PF7, 29 PF8, 30 PF9, 31 PF10, 32 PH0, 33 PH1, 34 NRST, 35 PC0, 36 PC1, 37 PC2, 38 PC3, 39 VDD, 40 VSSA, 41 VREF+, 42 VDDA, 43 PA0, 44 PA1, 45 PA2, 46 PH2, 47 PH3, 48 PH4, 49 PH5, 50 PA3, 51 VSS, 52 VDD, 53 PA4, 54 PA5, 55 PA6, 56 PA7, 57 PC4, 58 PC5, 59 VDD, 60 VSS, 61 PB0, 62 PB1, 63 PB2, 64 PI15, 65 PJ0, 66 PJ1, 67 PJ2, 68 PJ3, 69 PJ4, 70 PF11, 71 PF12_A6, 72 VSS, 73 VDD, 74 PF13_A7, 75 PF14_A8, 76 PF15_A9, 77 PG0_A10, 78 PG1_A11, 79 PE7_D4, 80 PE8_D5, 81 PE9_D6, 82 VSS, 83 VDD, 84 PE10_D7, 85 PE11_D8, 86 PE12_D9, 87 PE13_D10, 88 PE14_D11, 89 PE15_D12, 90 PB10, 91 PB11, 92 VCAP, 93 VSS, 94 VDD, 95 PJ5, 96 PH6, 97 PH7, 98 PH8_D16, 99 PH9_D17, 100 PH10_D18, 101 PH11_D19, 102 PH12_D20, 103 VDD, 104 PB12, 105 PB13, 106 PB14, 107 PB15, 108 PD8_D13, 109 PD9_D14, 110 PD10_D15, 111 PD11, 112 PD12, 113 PD13, 114 VSS, 115 VDD, 116 PD14_D0, 117 PD15_D1, 118 PJ6, 119 PJ7, 120 PJ8, 121 PJ9, 122 PJ10, 123 PJ11, 124 VDD, 125 VSS, 126 PK0, 127 PK1, 128 PK2, 129 PG2_A12, 130 PG3_A13, 131 PG4_BA0, 132 PG5_BA1, 133 PG6, 134 PG7, 135 PG8, 136 VSS, 137 VDD33USB, 138 PC6, 139 PC7, 140 PC8, 141 PC9, 142 PA8, 143 PA9, 144 PA10, 145 PA11, 146 PA12, 147 PA13, 148 VCAP, 149 VSS, 150 VDD, 151 PH13_D21, 152 PH14_D22, 153 PH15_D23, 154 PI0_D24, 155 PI1_D25, 156 PI2_D26, 157 PI3_D27, 158 VDD, 159 PA14, 160 PA15, 161 PC10, 162 PC11, 163 PC12, 164 PD0_D2, 165 PD1_D3, 166 PD2, 167 PD3, 168 PD4, 169 PD5, 170 VSS, 171 VDD, 172 PD6, 173 PD7, 174 PJ12, 175 PJ13, 176 PJ14, 177 PJ15, 178 PG9, 179 PG10, 180 PG11, 181 PG12, 182 PG13, 183 PG14, 184 VSS, 185 VDD, 186 PK3, 187 PK4, 188 PK5, 189 PK6, 190 PK7, 191 PG15, 192 PB3, 193 PB4, 194 PB5, 195 PB6, 196 PB7, 197 BOOT0, 198 PB8, 199 PB9, 200 PE0, 201 PE1, 202 VSS, 203 PDR_ON, 204 VDD, 205 PI4, 206 PI5, 207 PI6_D28, 208 PI7_D29

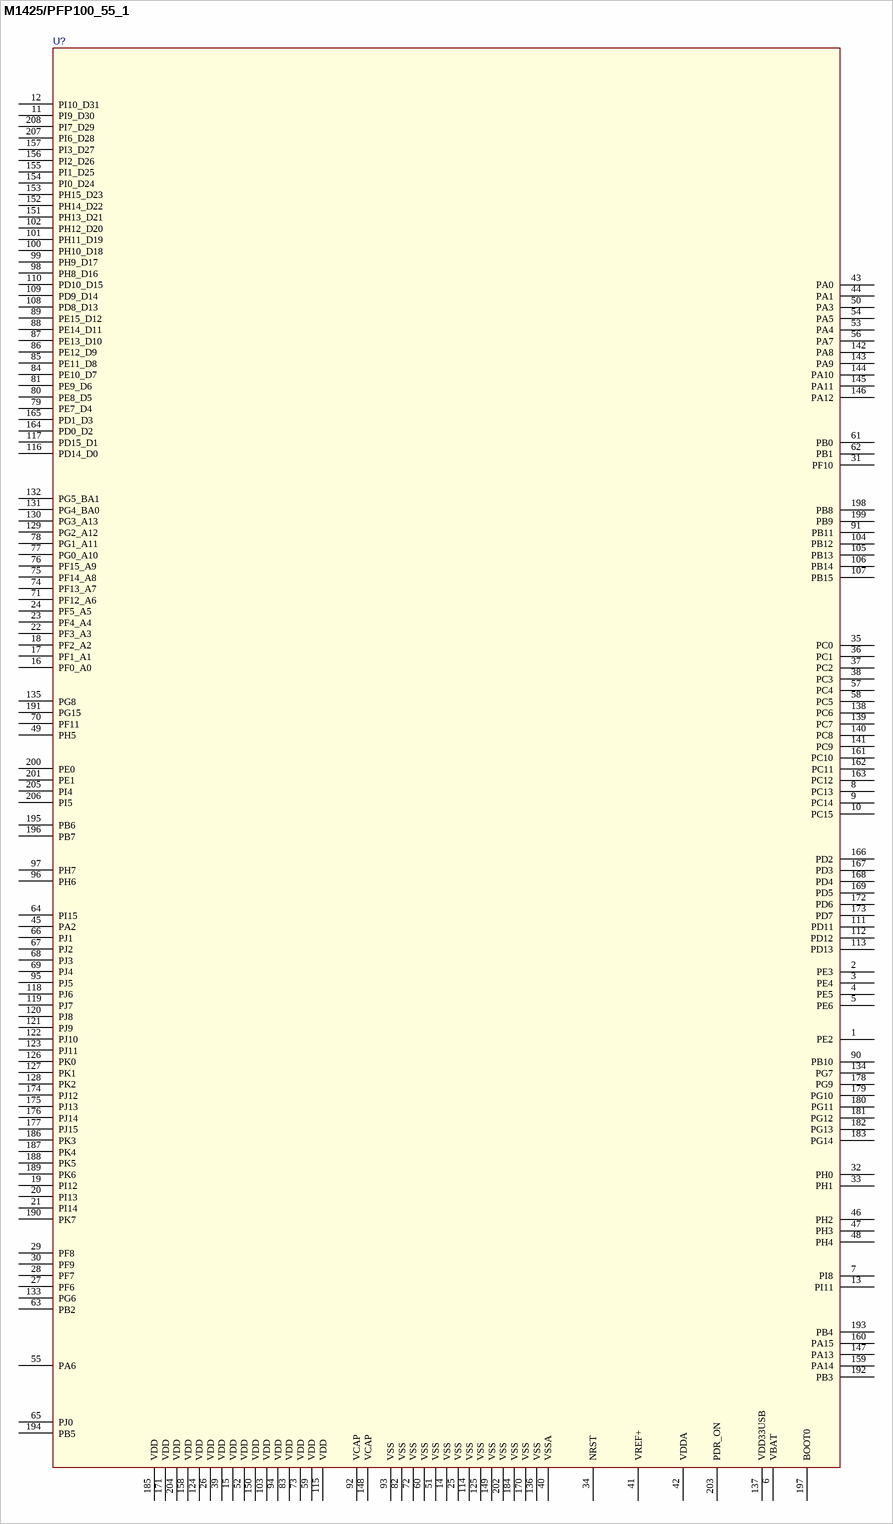
[diagram p10: symbol M1425/PFP100_55_1]

## M1425/PFP100_55_1
designator U?
pins: 1 PE2, 2 PE3, 3 PE4, 4 PE5, 5 PE6, 6 VBAT, 7 PI8, 8 PC13, 9 PC14, 10 PC15, 11 PI9_D30, 12 PI10_D31, 13 PI11, 14 VSS, 15 VDD, 16 PF0_A0, 17 PF1_A1, 18 PF2_A2, 19 PI12, 20 PI13, 21 PI14, 22 PF3_A3, 23 PF4_A4, 24 PF5_A5, 25 VSS, 26 VDD, 27 PF6, 28 PF7, 29 PF8, 30 PF9, 31 PF10, 32 PH0, 33 PH1, 34 NRST, 35 PC0, 36 PC1, 37 PC2, 38 PC3, 39 VDD, 40 VSSA, 41 VREF+, 42 VDDA, 43 PA0, 44 PA1, 45 PA2, 46 PH2, 47 PH3, 48 PH4, 49 PH5, 50 PA3, 51 VSS, 52 VDD, 53 PA4, 54 PA5, 55 PA6, 56 PA7, 57 PC4, 58 PC5, 59 VDD, 60 VSS, 61 PB0, 62 PB1, 63 PB2, 64 PI15, 65 PJ0, 66 PJ1, 67 PJ2, 68 PJ3, 69 PJ4, 70 PF11, 71 PF12_A6, 72 VSS, 73 VDD, 74 PF13_A7, 75 PF14_A8, 76 PF15_A9, 77 PG0_A10, 78 PG1_A11, 79 PE7_D4, 80 PE8_D5, 81 PE9_D6, 82 VSS, 83 VDD, 84 PE10_D7, 85 PE11_D8, 86 PE12_D9, 87 PE13_D10, 88 PE14_D11, 89 PE15_D12, 90 PB10, 91 PB11, 92 VCAP, 93 VSS, 94 VDD, 95 PJ5, 96 PH6, 97 PH7, 98 PH8_D16, 99 PH9_D17, 100 PH10_D18, 101 PH11_D19, 102 PH12_D20, 103 VDD, 104 PB12, 105 PB13, 106 PB14, 107 PB15, 108 PD8_D13, 109 PD9_D14, 110 PD10_D15, 111 PD11, 112 PD12, 113 PD13, 114 VSS, 115 VDD, 116 PD14_D0, 117 PD15_D1, 118 PJ6, 119 PJ7, 120 PJ8, 121 PJ9, 122 PJ10, 123 PJ11, 124 VDD, 125 VSS, 126 PK0, 127 PK1, 128 PK2, 129 PG2_A12, 130 PG3_A13, 131 PG4_BA0, 132 PG5_BA1, 133 PG6, 134 PG7, 135 PG8, 136 VSS, 137 VDD33USB, 138 PC6, 139 PC7, 140 PC8, 141 PC9, 142 PA8, 143 PA9, 144 PA10, 145 PA11, 146 PA12, 147 PA13, 148 VCAP, 149 VSS, 150 VDD, 151 PH13_D21, 152 PH14_D22, 153 PH15_D23, 154 PI0_D24, 155 PI1_D25, 156 PI2_D26, 157 PI3_D27, 158 VDD, 159 PA14, 160 PA15, 161 PC10, 162 PC11, 163 PC12, 164 PD0_D2, 165 PD1_D3, 166 PD2, 167 PD3, 168 PD4, 169 PD5, 170 VSS, 171 VDD, 172 PD6, 173 PD7, 174 PJ12, 175 PJ13, 176 PJ14, 177 PJ15, 178 PG9, 179 PG10, 180 PG11, 181 PG12, 182 PG13, 183 PG14, 184 VSS, 185 VDD, 186 PK3, 187 PK4, 188 PK5, 189 PK6, 190 PK7, 191 PG15, 192 PB3, 193 PB4, 194 PB5, 195 PB6, 196 PB7, 197 BOOT0, 198 PB8, 199 PB9, 200 PE0, 201 PE1, 202 VSS, 203 PDR_ON, 204 VDD, 205 PI4, 206 PI5, 207 PI6_D28, 208 PI7_D29

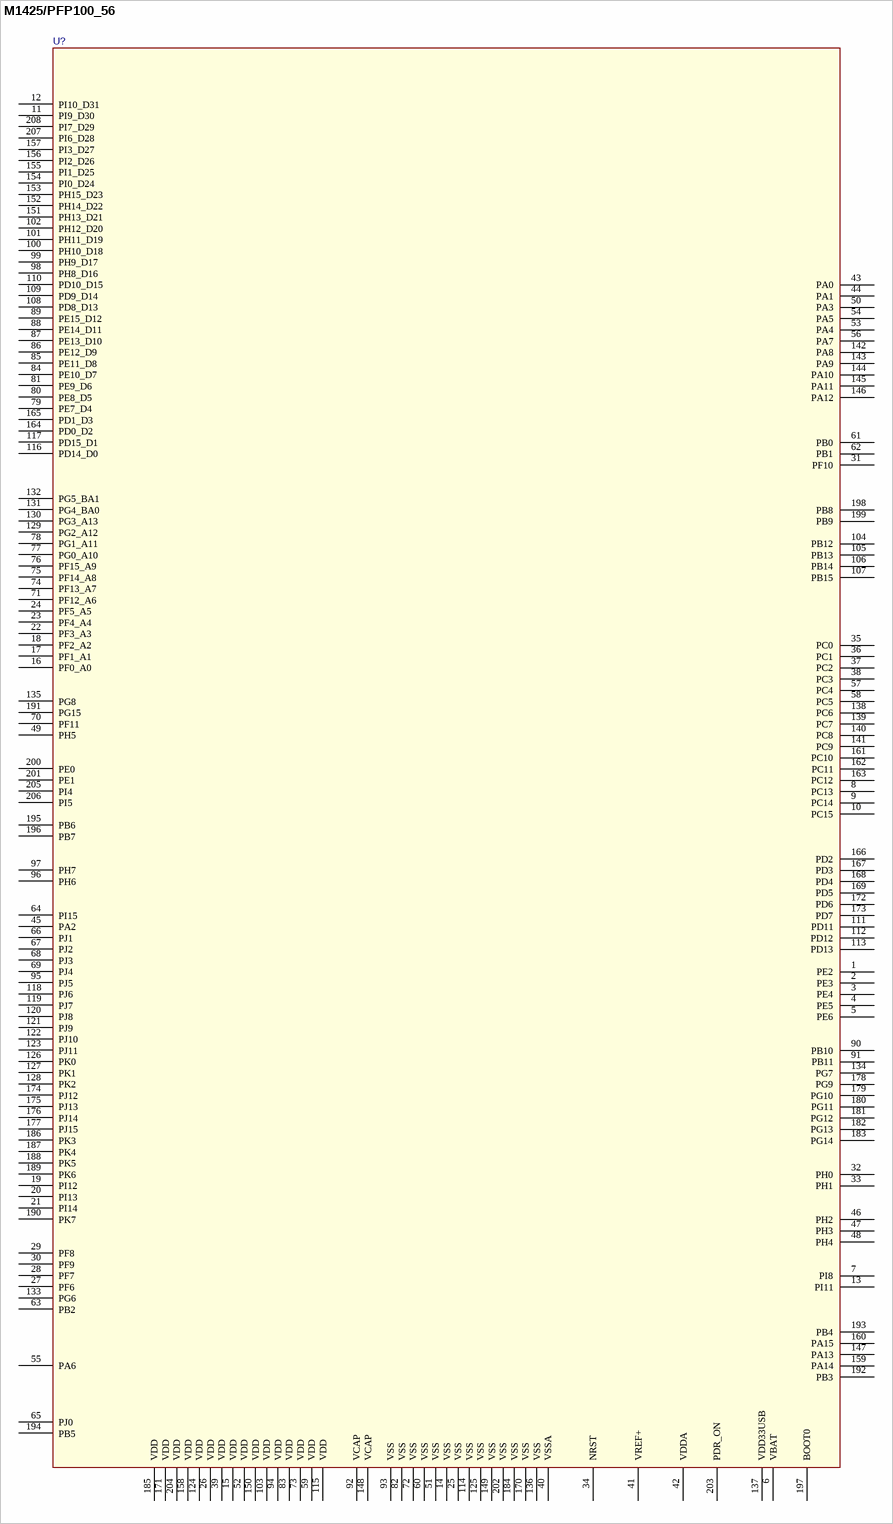
[diagram p11: symbol M1425/PFP100_56]

## M1425/PFP100_56
designator U?
pins: 1 PE2, 2 PE3, 3 PE4, 4 PE5, 5 PE6, 6 VBAT, 7 PI8, 8 PC13, 9 PC14, 10 PC15, 11 PI9_D30, 12 PI10_D31, 13 PI11, 14 VSS, 15 VDD, 16 PF0_A0, 17 PF1_A1, 18 PF2_A2, 19 PI12, 20 PI13, 21 PI14, 22 PF3_A3, 23 PF4_A4, 24 PF5_A5, 25 VSS, 26 VDD, 27 PF6, 28 PF7, 29 PF8, 30 PF9, 31 PF10, 32 PH0, 33 PH1, 34 NRST, 35 PC0, 36 PC1, 37 PC2, 38 PC3, 39 VDD, 40 VSSA, 41 VREF+, 42 VDDA, 43 PA0, 44 PA1, 45 PA2, 46 PH2, 47 PH3, 48 PH4, 49 PH5, 50 PA3, 51 VSS, 52 VDD, 53 PA4, 54 PA5, 55 PA6, 56 PA7, 57 PC4, 58 PC5, 59 VDD, 60 VSS, 61 PB0, 62 PB1, 63 PB2, 64 PI15, 65 PJ0, 66 PJ1, 67 PJ2, 68 PJ3, 69 PJ4, 70 PF11, 71 PF12_A6, 72 VSS, 73 VDD, 74 PF13_A7, 75 PF14_A8, 76 PF15_A9, 77 PG0_A10, 78 PG1_A11, 79 PE7_D4, 80 PE8_D5, 81 PE9_D6, 82 VSS, 83 VDD, 84 PE10_D7, 85 PE11_D8, 86 PE12_D9, 87 PE13_D10, 88 PE14_D11, 89 PE15_D12, 90 PB10, 91 PB11, 92 VCAP, 93 VSS, 94 VDD, 95 PJ5, 96 PH6, 97 PH7, 98 PH8_D16, 99 PH9_D17, 100 PH10_D18, 101 PH11_D19, 102 PH12_D20, 103 VDD, 104 PB12, 105 PB13, 106 PB14, 107 PB15, 108 PD8_D13, 109 PD9_D14, 110 PD10_D15, 111 PD11, 112 PD12, 113 PD13, 114 VSS, 115 VDD, 116 PD14_D0, 117 PD15_D1, 118 PJ6, 119 PJ7, 120 PJ8, 121 PJ9, 122 PJ10, 123 PJ11, 124 VDD, 125 VSS, 126 PK0, 127 PK1, 128 PK2, 129 PG2_A12, 130 PG3_A13, 131 PG4_BA0, 132 PG5_BA1, 133 PG6, 134 PG7, 135 PG8, 136 VSS, 137 VDD33USB, 138 PC6, 139 PC7, 140 PC8, 141 PC9, 142 PA8, 143 PA9, 144 PA10, 145 PA11, 146 PA12, 147 PA13, 148 VCAP, 149 VSS, 150 VDD, 151 PH13_D21, 152 PH14_D22, 153 PH15_D23, 154 PI0_D24, 155 PI1_D25, 156 PI2_D26, 157 PI3_D27, 158 VDD, 159 PA14, 160 PA15, 161 PC10, 162 PC11, 163 PC12, 164 PD0_D2, 165 PD1_D3, 166 PD2, 167 PD3, 168 PD4, 169 PD5, 170 VSS, 171 VDD, 172 PD6, 173 PD7, 174 PJ12, 175 PJ13, 176 PJ14, 177 PJ15, 178 PG9, 179 PG10, 180 PG11, 181 PG12, 182 PG13, 183 PG14, 184 VSS, 185 VDD, 186 PK3, 187 PK4, 188 PK5, 189 PK6, 190 PK7, 191 PG15, 192 PB3, 193 PB4, 194 PB5, 195 PB6, 196 PB7, 197 BOOT0, 198 PB8, 199 PB9, 200 PE0, 201 PE1, 202 VSS, 203 PDR_ON, 204 VDD, 205 PI4, 206 PI5, 207 PI6_D28, 208 PI7_D29

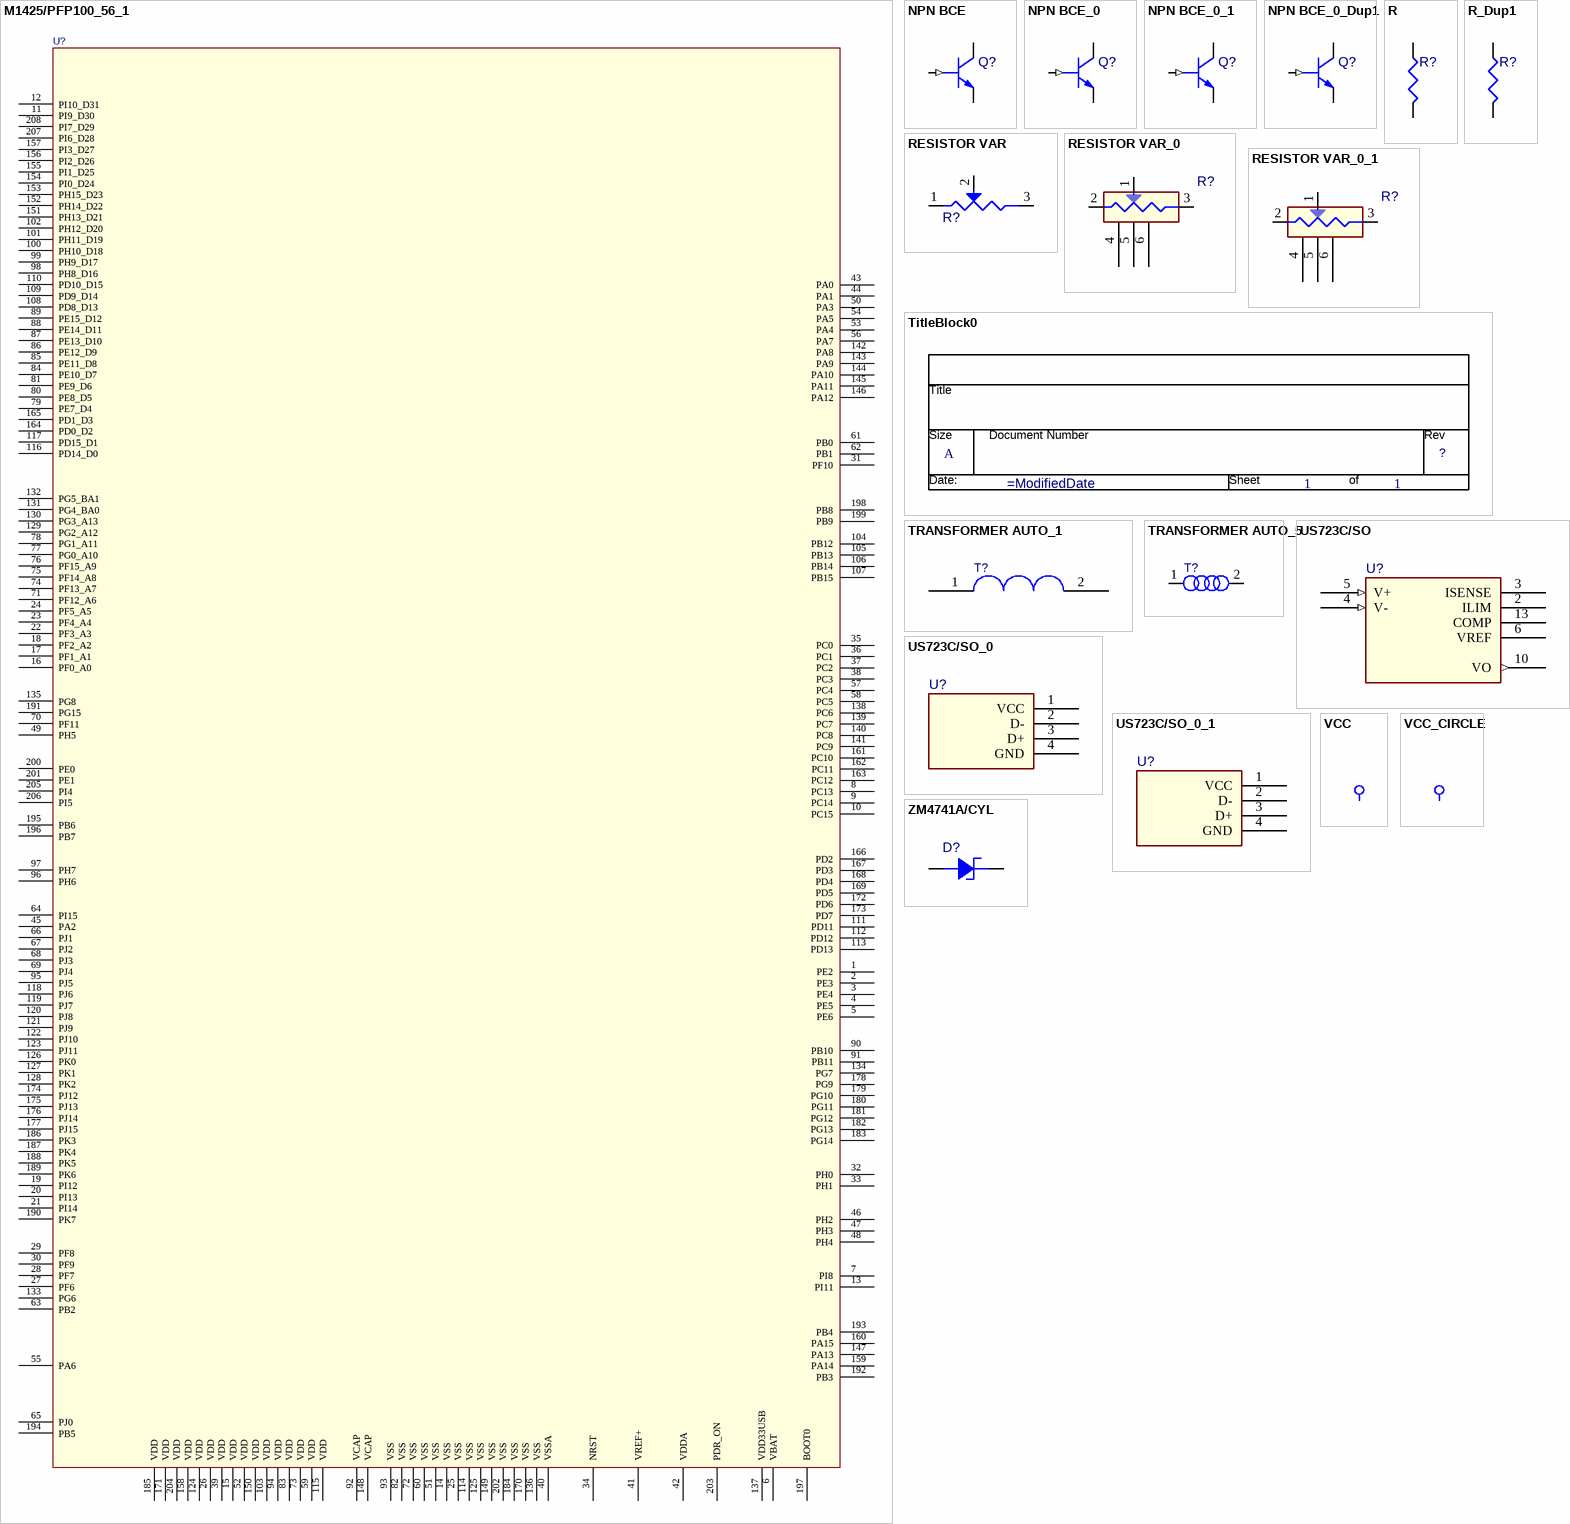
[diagram p12: symbols M1425/PFP100_56_1 to ZM4741A/CYL]

## M1425/PFP100_56_1
designator U?
pins: 1 PE2, 2 PE3, 3 PE4, 4 PE5, 5 PE6, 6 VBAT, 7 PI8, 8 PC13, 9 PC14, 10 PC15, 11 PI9_D30, 12 PI10_D31, 13 PI11, 14 VSS, 15 VDD, 16 PF0_A0, 17 PF1_A1, 18 PF2_A2, 19 PI12, 20 PI13, 21 PI14, 22 PF3_A3, 23 PF4_A4, 24 PF5_A5, 25 VSS, 26 VDD, 27 PF6, 28 PF7, 29 PF8, 30 PF9, 31 PF10, 32 PH0, 33 PH1, 34 NRST, 35 PC0, 36 PC1, 37 PC2, 38 PC3, 39 VDD, 40 VSSA, 41 VREF+, 42 VDDA, 43 PA0, 44 PA1, 45 PA2, 46 PH2, 47 PH3, 48 PH4, 49 PH5, 50 PA3, 51 VSS, 52 VDD, 53 PA4, 54 PA5, 55 PA6, 56 PA7, 57 PC4, 58 PC5, 59 VDD, 60 VSS, 61 PB0, 62 PB1, 63 PB2, 64 PI15, 65 PJ0, 66 PJ1, 67 PJ2, 68 PJ3, 69 PJ4, 70 PF11, 71 PF12_A6, 72 VSS, 73 VDD, 74 PF13_A7, 75 PF14_A8, 76 PF15_A9, 77 PG0_A10, 78 PG1_A11, 79 PE7_D4, 80 PE8_D5, 81 PE9_D6, 82 VSS, 83 VDD, 84 PE10_D7, 85 PE11_D8, 86 PE12_D9, 87 PE13_D10, 88 PE14_D11, 89 PE15_D12, 90 PB10, 91 PB11, 92 VCAP, 93 VSS, 94 VDD, 95 PJ5, 96 PH6, 97 PH7, 98 PH8_D16, 99 PH9_D17, 100 PH10_D18, 101 PH11_D19, 102 PH12_D20, 103 VDD, 104 PB12, 105 PB13, 106 PB14, 107 PB15, 108 PD8_D13, 109 PD9_D14, 110 PD10_D15, 111 PD11, 112 PD12, 113 PD13, 114 VSS, 115 VDD, 116 PD14_D0, 117 PD15_D1, 118 PJ6, 119 PJ7, 120 PJ8, 121 PJ9, 122 PJ10, 123 PJ11, 124 VDD, 125 VSS, 126 PK0, 127 PK1, 128 PK2, 129 PG2_A12, 130 PG3_A13, 131 PG4_BA0, 132 PG5_BA1, 133 PG6, 134 PG7, 135 PG8, 136 VSS, 137 VDD33USB, 138 PC6, 139 PC7, 140 PC8, 141 PC9, 142 PA8, 143 PA9, 144 PA10, 145 PA11, 146 PA12, 147 PA13, 148 VCAP, 149 VSS, 150 VDD, 151 PH13_D21, 152 PH14_D22, 153 PH15_D23, 154 PI0_D24, 155 PI1_D25, 156 PI2_D26, 157 PI3_D27, 158 VDD, 159 PA14, 160 PA15, 161 PC10, 162 PC11, 163 PC12, 164 PD0_D2, 165 PD1_D3, 166 PD2, 167 PD3, 168 PD4, 169 PD5, 170 VSS, 171 VDD, 172 PD6, 173 PD7, 174 PJ12, 175 PJ13, 176 PJ14, 177 PJ15, 178 PG9, 179 PG10, 180 PG11, 181 PG12, 182 PG13, 183 PG14, 184 VSS, 185 VDD, 186 PK3, 187 PK4, 188 PK5, 189 PK6, 190 PK7, 191 PG15, 192 PB3, 193 PB4, 194 PB5, 195 PB6, 196 PB7, 197 BOOT0, 198 PB8, 199 PB9, 200 PE0, 201 PE1, 202 VSS, 203 PDR_ON, 204 VDD, 205 PI4, 206 PI5, 207 PI6_D28, 208 PI7_D29

## NPN BCE
designator Q?
pins: 1 BASE (in), 2 COLLECTOR, 3 EMITTER

## NPN BCE_0
designator Q?
pins: 1 BASE (in), 2 EMITTER, 3 COLLECTOR

## NPN BCE_0_1
designator Q?
pins: 1 BASE (in), 2 EMITTER, 3 COLLECTOR

## NPN BCE_0_Dup1
designator Q?
pins: 1 BASE (in), 2 EMITTER, 3 COLLECTOR

## R
designator R?
pins: 1, 2

## R_Dup1
designator R?
pins: 1, 2

## RESISTOR VAR
designator R?
pins: 1 A, 2 WIPER, 3 B

## RESISTOR VAR_0
designator R?
pins: 1 A, 2 WIPER, 3 B, 4 B, 5 B, 6 B

## RESISTOR VAR_0_1
designator R?
pins: 1 A, 2 WIPER, 3 B, 4 B, 5 B, 6 B

## TitleBlock0
designator *  Page Count: 1  Page Size: A  (hidden comment: *)  (graphical)
Page Number: 1; RevCode: ?; Page Create Date: March  8, 1995; Page Modify Date: =ModifiedDate
text: Title; Size; Document Number; Rev; Date:; Sheet; of

## TRANSFORMER AUTO_1
designator T?
pins: 1 SF, 2 SF

## TRANSFORMER AUTO_5
designator T?
pins: 1 SF, 2 SF

## US723C/SO
designator U?
pins: 2 ILIM, 3 ISENSE, 4 V- (in), 5 V+ (in), 6 VREF, 7 VEE (power) hidden to VEE, 9 VZ (power) hidden to VZ, 10 VO (out), 11 VC (power) hidden to VC, 12 VCC (power) hidden to VCC, 13 COMP

## US723C/SO_0
designator U?
pins: 1 VCC, 2 D-, 3 D+, 4 GND

## US723C/SO_0_1
designator U?
pins: 1 VCC, 2 D-, 3 D+, 4 GND

## VCC
designator *  (value not drawn)  (graphical)
pins: $PIN0 (power) hidden to $PIN0

## VCC_CIRCLE
designator *  (value not drawn)  (graphical)
pins: $PIN0 (power) hidden to $PIN0

## ZM4741A/CYL
designator D?
pins: 1 ANODE, 2 CATHODE